# Altium integrated library Lattice FPGA XP2.IntLib: 160 symbols (part 34 of 35)
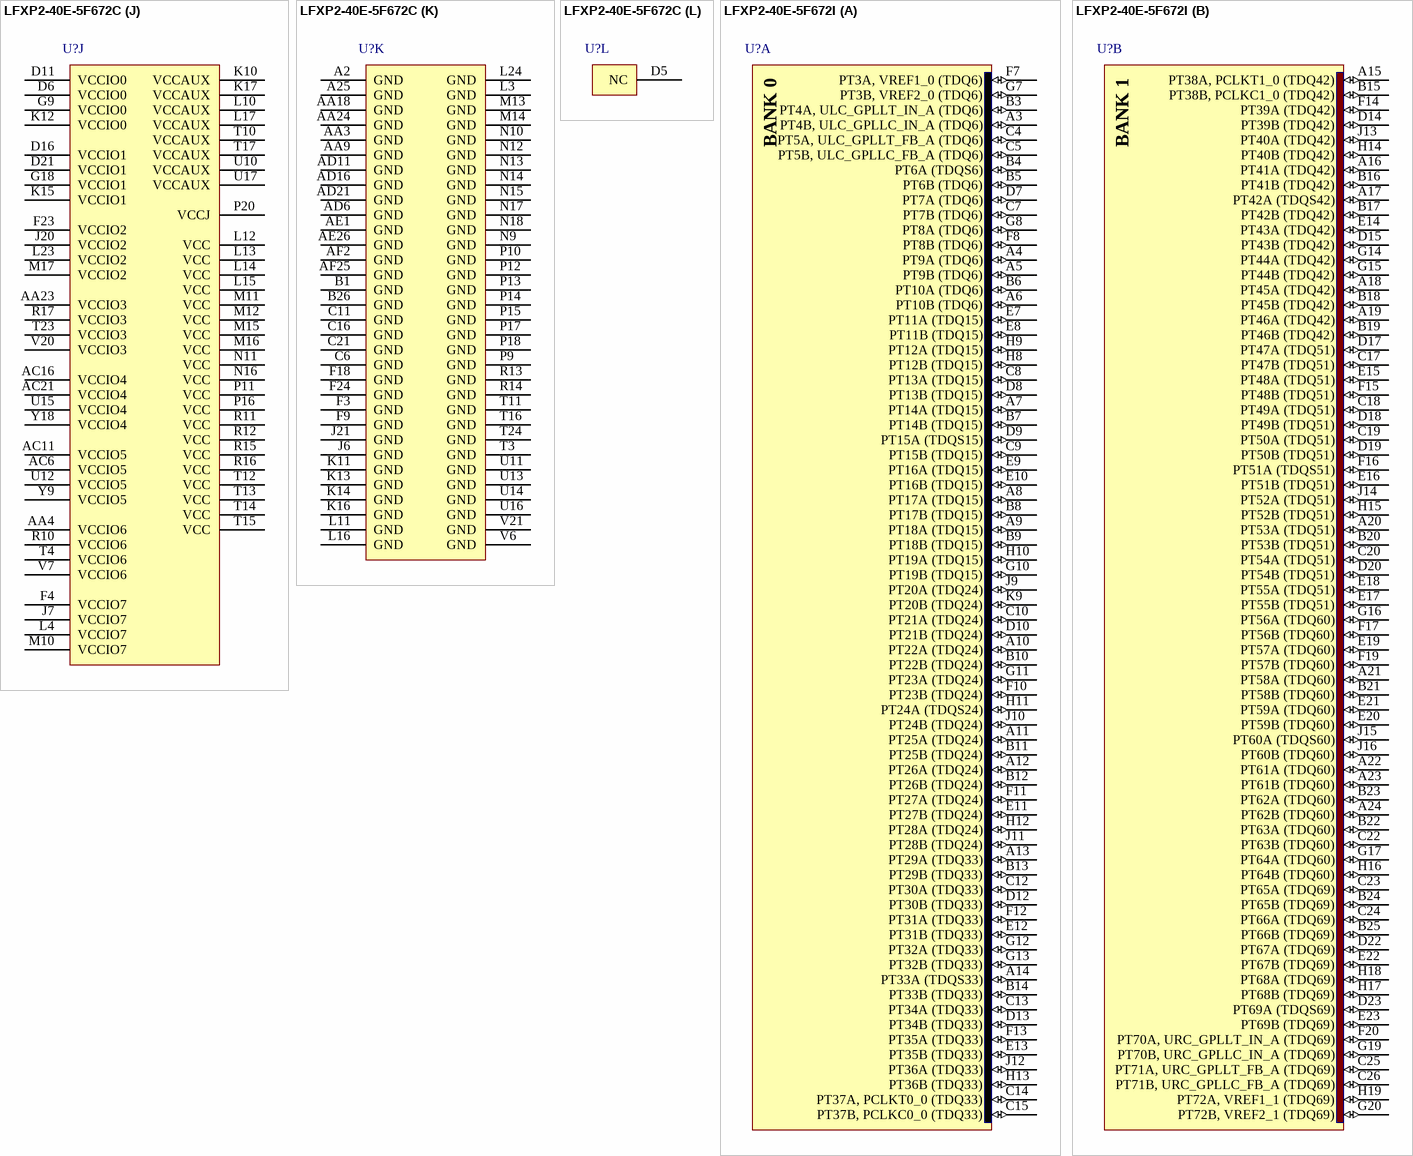
[diagram p193: symbols LFXP2-40E-5F672C to LFXP2-40E-5F672I]

## LFXP2-40E-5F672C
designator U?
XP2, 1.2V FPGA, 540 I/Os, 40K LUTs, 672-Pin fpBGA, Speed Grade 5, Commercial Grade; DatasheetVersion: ver01.8, Jun-2008; PackageVersion: ver02.8, Jul-2011; PackageReference: fpBGA672; PackageDescription: 672-Ball Fine Pitch Ball Grid Array (fpBGA672); ComponentLink1Description: Manufacturer URL; ComponentLink1URL: http://www.latticesemi.com/; ComponentLink2Description: Datasheet; ComponentLink2URL: http://www.latticesemi.com/documents/DS1009.pdf; ComponentLink3Description: Package Specification; ComponentLink3URL: http://www.latticesemi.com/lit/docs/package/pkg.pdf
footprint fpBGA672 (BGA, 672-Leads, Body 27x27mm, Pitch 1mm)
part A pins: A3 PT4B, ULC_GPLLC_IN_A (TDQ6) (io), A4 PT9A (TDQ6) (io), A5 PT9B (TDQ6) (io), A6 PT10B (TDQ6) (io), A7 PT14A (TDQ15) (io), A8 PT17A (TDQ15) (io), A9 PT18A (TDQ15) (io), A10 PT22A (TDQ24) (io), A11 PT25A (TDQ24) (io), A12 PT26A (TDQ24) (io), A13 PT29A (TDQ33) (io), A14 PT33A (TDQS33) (io), B3 PT4A, ULC_GPLLT_IN_A (TDQ6) (io), B4 PT6A (TDQS6) (io), B5 PT6B (TDQ6) (io), B6 PT10A (TDQ6) (io), B7 PT14B (TDQ15) (io), B8 PT17B (TDQ15) (io), B9 PT18B (TDQ15) (io), B10 PT22B (TDQ24) (io), B11 PT25B (TDQ24) (io), B12 PT26B (TDQ24) (io), B13 PT29B (TDQ33) (io), B14 PT33B (TDQ33) (io), C4 PT5A, ULC_GPLLT_FB_A (TDQ6) (io), C5 PT5B, ULC_GPLLC_FB_A (TDQ6) (io), C7 PT7B (TDQ6) (io), C8 PT13A (TDQ15) (io), C9 PT15B (TDQ15) (io), C10 PT21A (TDQ24) (io), C12 PT30A (TDQ33) (io), C13 PT34A (TDQ33) (io), C14 PT37A, PCLKT0_0 (TDQ33) (io), C15 PT37B, PCLKC0_0 (TDQ33) (io), D7 PT7A (TDQ6) (io), D8 PT13B (TDQ15) (io), D9 PT15A (TDQS15) (io), D10 PT21B (TDQ24) (io), D12 PT30B (TDQ33) (io), D13 PT34B (TDQ33) (io), E7 PT11A (TDQ15) (io), E8 PT11B (TDQ15) (io), E9 PT16A (TDQ15) (io), E10 PT16B (TDQ15) (io), E11 PT27B (TDQ24) (io), E12 PT31B (TDQ33) (io), E13 PT35B (TDQ33) (io), F7 PT3A, VREF1_0 (TDQ6) (io), F8 PT8B (TDQ6) (io), F10 PT23B (TDQ24) (io), F11 PT27A (TDQ24) (io), F12 PT31A (TDQ33) (io), F13 PT35A (TDQ33) (io), G7 PT3B, VREF2_0 (TDQ6) (io), G8 PT8A (TDQ6) (io), G10 PT19B (TDQ15) (io), G11 PT23A (TDQ24) (io), G12 PT32A (TDQ33) (io), G13 PT32B (TDQ33) (io), H8 PT12B (TDQ15) (io), H9 PT12A (TDQ15) (io), H10 PT19A (TDQ15) (io), H11 PT24A (TDQS24) (io), H12 PT28A (TDQ24) (io), H13 PT36B (TDQ33) (io), J9 PT20A (TDQ24) (io), J10 PT24B (TDQ24) (io), J11 PT28B (TDQ24) (io), J12 PT36A (TDQ33) (io), K9 PT20B (TDQ24) (io)
part B pins: A15 PT38A, PCLKT1_0 (TDQ42) (io), A16 PT41A (TDQ42) (io), A17 PT42A (TDQS42) (io), A18 PT45A (TDQ42) (io), A19 PT46A (TDQ42) (io), A20 PT53A (TDQ51) (io), A21 PT58A (TDQ60) (io), A22 PT61A (TDQ60) (io), A23 PT61B (TDQ60) (io), A24 PT62B (TDQ60) (io), B15 PT38B, PCLKC1_0 (TDQ42) (io), B16 PT41B (TDQ42) (io), B17 PT42B (TDQ42) (io), B18 PT45B (TDQ42) (io), B19 PT46B (TDQ42) (io), B20 PT53B (TDQ51) (io), B21 PT58B (TDQ60) (io), B22 PT63A (TDQ60) (io), B23 PT62A (TDQ60) (io), B24 PT65B (TDQ69) (io), B25 PT66B (TDQ69) (io), C17 PT47B (TDQ51) (io), C18 PT49A (TDQ51) (io), C19 PT50A (TDQ51) (io), C20 PT54A (TDQ51) (io), C22 PT63B (TDQ60) (io), C23 PT65A (TDQ69) (io), C24 PT66A (TDQ69) (io), C25 PT71A, URC_GPLLT_FB_A (TDQ69) (io), C26 PT71B, URC_GPLLC_FB_A (TDQ69) (io), D14 PT39B (TDQ42) (io), D15 PT43B (TDQ42) (io), D17 PT47A (TDQ51) (io), D18 PT49B (TDQ51) (io), D19 PT50B (TDQ51) (io), D20 PT54B (TDQ51) (io), D22 PT67A (TDQ69) (io), D23 PT69A (TDQS69) (io), E14 PT43A (TDQ42) (io), E15 PT48A (TDQ51) (io), E16 PT51B (TDQ51) (io), E17 PT55B (TDQ51) (io), E18 PT55A (TDQ51) (io), E19 PT57A (TDQ60) (io), E20 PT59B (TDQ60) (io), E21 PT59A (TDQ60) (io), E22 PT67B (TDQ69) (io), E23 PT69B (TDQ69) (io), F14 PT39A (TDQ42) (io), F15 PT48B (TDQ51) (io), F16 PT51A (TDQS51) (io), F17 PT56B (TDQ60) (io), F19 PT57B (TDQ60) (io), F20 PT70A, URC_GPLLT_IN_A (TDQ69) (io), G14 PT44A (TDQ42) (io), G15 PT44B (TDQ42) (io), G16 PT56A (TDQ60) (io), G17 PT64A (TDQ60) (io), G19 PT70B, URC_GPLLC_IN_A (TDQ69) (io), G20 PT72B, VREF2_1 (TDQ69) (io), H14 PT40B (TDQ42) (io), H15 PT52B (TDQ51) (io), H16 PT64B (TDQ60) (io), H17 PT68B (TDQ69) (io), H18 PT68A (TDQ69) (io), H19 PT72A, VREF1_1 (TDQ69) (io), J13 PT40A (TDQ42) (io), J14 PT52A (TDQ51) (io), J15 PT60A (TDQS60) (io), J16 PT60B (TDQ60) (io)
part C pins: D24 PR4A (RDQ8) (io), D25 PR7A (RDQ8) (io), D26 PR7B (RDQ8) (io), E24 PR4B (RDQ8) (io), E25 PR8A (RDQS8) (io), E26 PR8B (RDQ8) (io), F21 PR6B (RDQ8) (io), F22 PR5B, VREF2_2 (RDQ8) (io), F25 PR12A (RDQ16) (io), F26 PR12B (RDQ16) (io), G21 PR5A, VREF1_2 (RDQ8) (io), G22 PR6A (RDQ8) (io), G23 PR11B (RDQ8) (io), G24 PR11A (RDQ8) (io), G25 PR15B (RDQ16) (io), G26 PR15A (RDQ16) (io), H20 PR9A (RDQ8) (io), H21 PR9B (RDQ8) (io), H22 PR13A (RDQ16) (io), H23 PR14B (RDQ16) (io), H24 PR14A (RDQ16) (io), H25 PR19B (RDQ16) (io), H26 PR19A (RDQ16) (io), J17 PR22A (RDQ25) (io), J18 PR10B (RDQ8) (io), J19 PR10A (RDQ8) (io), J22 PR13B (RDQ16) (io), J23 PR16B (RDQ16) (io), J24 PR16A (RDQS16) (io), J25 PR24B (RDQ25) (io), J26 PR24A (RDQ25) (io), K18 PR22B (RDQ25) (io), K19 PR17B (RDQ16) (io), K20 PR17A (RDQ16) (io), K21 PR18B (RDQ16) (io), K22 PR18A (RDQ16) (io), K23 PR21B (RDQ25) (io), K24 PR21A (RDQ25) (io), K25 PR25B (RDQ25) (io), K26 PR25A (RDQS25) (io), L18 PR30A (RDQ33) (io), L19 PR26B (RDQ25) (io), L20 PR26A (RDQ25) (io), L21 PR23B (RDQ25) (io), L22 PR23A (RDQ25) (io), L25 PR28B (RDQ25) (io), L26 PR28A (RDQ25) (io), M18 PR31B (RDQ33) (io), M19 PR30B (RDQ33) (io), M20 PR31A (RDQ33) (io), M21 PR27B (RDQ25) (io), M22 PR27A (RDQ25) (io), M23 PR29B (RDQ33) (io), M24 PR29A (RDQ33) (io), M25 PR32B (RDQ33) (io), M26 PR32A (RDQ33) (io), N19 PR35B (RDQ33) (io), N20 PR35A (RDQ33) (io), N21 PR34A (RDQ33) (io), N22 PR34B (RDQ33) (io), N23 PR33B (RDQ33) (io), N24 PR33A (RDQS33) (io), N25 PR36B, PCLKC2_0 (RDQ33) (io), N26 PR36A, PCLKT2_0 (RDQ33) (io)
part D pins: AA21 PR67B (RDQ67) (io), AA22 PR69A (RDQ67) (io), AA25 PR55B (RDQ59) (io), AA26 PR55A (RDQ59) (io), AB21 PR69B (RDQ67) (io), AB22 PR71B (io), AB23 PR62B (RDQ59) (io), AB24 PR62A (RDQ59) (io), AB25 PR58B (RDQ59) (io), AB26 PR58A (RDQ59) (io), AC22 PR71A (io), AC23 PR63B (RDQ67) (io), AC24 PR63A (RDQ67) (io), AC25 PR59B (RDQ59) (io), AC26 PR59A (RDQS59) (io), AD23 PR70B, VREF2_3 (RDQ67) (io), AD24 PR70A, VREF1_3 (RDQ67) (io), AD25 PR66B (RDQ67) (io), AD26 PR66A (RDQ67) (io), P19 PR39A (RDQ42) (io), P25 PR38B, PCLKC3_0 (RDQ42) (io), P26 PR38A, PCLKT3_0 (RDQ42) (io), R18 PR39B (RDQ42) (io), R19 PR43A (RDQ42) (io), R20 PR43B (RDQ42) (io), R21 PR40B (RDQ42) (io), R22 PR40A (RDQ42) (io), R23 PR42B (RDQ42) (io), R24 PR42A (RDQS42) (io), R25 PR41B (RDQ42) (io), R26 PR41A (RDQ42) (io), T18 PR47A (RDQ50) (io), T19 PR47B (RDQ50) (io), T20 PR51B (RDQ50) (io), T21 PR51A (RDQ50) (io), T22 PR44B (RDQ42) (io), T25 PR45B (RDQ42) (io), T26 PR45A (RDQ42) (io), U18 PR56A (RDQ59) (io), U19 PR56B (RDQ59) (io), U20 PR60B (RDQ59) (io), U21 PR60A (RDQ59) (io), U22 PR44A (RDQ42) (io), U23 PR48B (RDQ50) (io), U24 PR48A (RDQ50) (io), U25 PR46B (RDQ50) (io), U26 PR46A (RDQ50) (io), V19 PR68A (RDQ67) (io), V22 PR64A (RDQ67) (io), V23 PR52B (RDQ50) (io), V24 PR52A (RDQ50) (io), V25 PR49B (RDQ50) (io), V26 PR49A (RDQ50) (io), W20 PR68B (RDQ67) (io), W21 PR64B (RDQ67) (io), W22 PR65A (RDQ67) (io), W23 PR57B (RDQ59) (io), W24 PR57A (RDQ59) (io), W25 PR50B (RDQ50) (io), W26 PR50A (RDQS50) (io), Y21 PR65B (RDQ67) (io), Y22 PR67A (RDQS67) (io), Y23 PR61B (RDQ59) (io), Y24 PR61A (RDQ59) (io), Y25 PR53B (RDQ50) (io), Y26 PR53A (RDQ50) (io)
part E pins: AA14 PB39A (BDQ42) (io), AA15 PB44B (BDQ42) (io), AA16 PB47A (BDQ51) (io), AA17 PB59A (BDQ60) (io), AA19 PB68A (BDQ69) (io), AA20 PB71B, LRC_GPLLC_FB_A (BDQ69) (io), AB14 PB39B (BDQ42) (io), AB15 PB44A (BDQ42) (io), AB16 PB47B (BDQ51) (io), AB17 PB59B (BDQ60) (io), AB18 PB63A (BDQ60) (io), AB19 PB63B (BDQ60) (io), AB20 PB71A, LRC_GPLLT_FB_A (BDQ69) (io), AC15 PB43A (BDQ42) (io), AC17 PB51A (BDQS51) (io), AC18 PB55A (BDQ51) (io), AC19 PB67A (BDQ69) (io), AC20 PB70B, LRC_GPLLC_IN_A (BDQ69) (io), AD15 PB43B (BDQ42) (io), AD17 PB51B (BDQ51) (io), AD18 PB55B (BDQ51) (io), AD19 PB67B (BDQ69) (io), AD20 PB70A, LRC_GPLLT_IN_A (BDQ69) (io), AD22 PB69B (BDQ69) (io), AE10 PB38A, PCLKT4_0 (BDQ42) (io), AE11 PB41A (BDQ42) (io), AE12 PB42A (BDQS42) (io), AE13 PB45A (BDQ42) (io), AE14 PB46A (BDQ42) (io), AE15 PB49A (BDQ51) (io), AE16 PB50A (BDQ51) (io), AE17 PB53A (BDQ51) (io), AE18 PB54A (BDQ51) (io), AE19 PB57A (BDQ60) (io), AE20 PB58A (BDQ60) (io), AE21 PB61B (BDQ60) (io), AE22 PB62B (BDQ60) (io), AE23 PB69A (BDQS69) (io), AE24 PB66B (BDQ69) (io), AE25 PB66A (BDQ69) (io), AF10 PB38B, PCLKC4_0 (BDQ42) (io), AF11 PB41B (BDQ42) (io), AF12 PB42B (BDQ42) (io), AF13 PB45B (BDQ42) (io), AF14 PB46B (BDQ42) (io), AF15 PB49B (BDQ51) (io), AF16 PB50B (BDQ51) (io), AF17 PB53B (BDQ51) (io), AF18 PB54B (BDQ51) (io), AF19 PB57B (BDQ60) (io), AF20 PB58B (BDQ60) (io), AF21 PB61A (BDQ60) (io), AF22 PB62A (BDQ60) (io), AF23 PB65A (BDQ69) (io), AF24 PB65B (BDQ69) (io), V15 PB40A (BDQ42) (io), V16 PB52A (BDQ51) (io), V17 PB60A (BDQS60) (io), V18 PB64A (BDQ60) (io), W15 PB40B (BDQ42) (io), W16 PB52B (BDQ51) (io), W17 PB60B (BDQ60) (io), W18 PB64B (BDQ60) (io), W19 PB72A, VREF1_4 (BDQ69) (io), Y14 PB48A (BDQ51) (io), Y15 PB48B (BDQ51) (io), Y16 PB56A (BDQ60) (io), Y17 PB56B (BDQ60) (io), Y19 PB68B (BDQ69) (io), Y20 PB72B, VREF2_4 (BDQ69) (io)
part F pins: AA7 PB5A, LLC_GPLLT_FB_A (BDQ6) (io), AA8 PB3A, VREF1_5 (BDQ6) (io), AA10 PB15B (BDQ15) (io), AA11 PB20B (BDQ24) (io), AA12 PB23A (BDQ24) (io), AA13 PB36B (BDQ33) (io), AB3 PB4A, LLC_GPLLT_IN_A (BDQ6) (io), AB4 PB4B, LLC_GPLLC_IN_A (BDQ6) (io), AB5 PB9A (BDQ6) (io), AB6 PB7B (BDQ6) (io), AB7 PB7A (BDQ6) (io), AB8 PB11A (BDQ15) (io), AB9 PB18A (BDQ15) (io), AB10 PB18B (BDQ15) (io), AB11 PB19A (BDQ15) (io), AB12 PB23B (BDQ24) (io), AB13 PB36A (BDQ33) (io), AC3 PB6A (BDQS6) (io), AC4 PB6B (BDQ6) (io), AC5 PB9B (BDQ6) (io), AC7 PB11B (BDQ15) (io), AC8 PB22A (BDQ24) (io), AC9 PB22B (BDQ24) (io), AC10 PB19B (BDQ15) (io), AC12 PB27A (BDQ24) (io), AC13 PB31A (BDQ33) (io), AC14 PB35A (BDQ33) (io), AD1 PB10A (BDQ6) (io), AD2 PB10B (BDQ6) (io), AD3 PB14A (BDQ15) (io), AD4 PB13A (BDQ15) (io), AD5 PB13B (BDQ15) (io), AD7 PB29B (BDQ33) (io), AD8 PB29A (BDQ33) (io), AD9 PB33B (BDQ33) (io), AD10 PB33A (BDQS33) (io), AD12 PB27B (BDQ24) (io), AD13 PB31B (BDQ33) (io), AD14 PB35B (BDQ33) (io), AE2 PB14B (BDQ15) (io), AE3 PB17A (BDQ15) (io), AE4 PB21A (BDQ24) (io), AE5 PB21B (BDQ24) (io), AE6 PB26A (BDQ24) (io), AE7 PB30A (BDQ33) (io), AE8 PB34A (BDQ33) (io), AE9 PB37A, PCLKT5_0 (BDQ33) (io), AF3 PB17B (BDQ15) (io), AF4 PB25A (BDQ24) (io), AF5 PB25B (BDQ24) (io), AF6 PB26B (BDQ24) (io), AF7 PB30B (BDQ33) (io), AF8 PB34B (BDQ33) (io), AF9 PB37B, PCLKC5_0 (BDQ33) (io), V10 PB8A (BDQ6) (io), V11 PB12A (BDQ15) (io), V12 PB16A (BDQ15) (io), V13 PB24A (BDQS24) (io), V14 PB32A (BDQ33) (io), W9 PB5B, LLC_GPLLC_FB_A (BDQ6) (io), W10 PB8B (BDQ6) (io), W11 PB12B (BDQ15) (io), W12 PB16B (BDQ15) (io), W13 PB24B (BDQ24) (io), W14 PB32B (BDQ33) (io), Y8 PB3B, VREF2_5 (BDQ6) (io), Y10 PB15A (BDQS15) (io), Y11 PB20A (BDQ24) (io), Y12 PB28A (BDQ24) (io), Y13 PB28B (BDQ24) (io)
part G pins: AA1 PL67A (LDQS67) (io), AA2 PL67B (LDQ67) (io), AA5 PL64A (LDQ67) (io), AA6 PL69A (LDQ67) (io), AB1 PL70A, VREF1_6 (LDQ67) (io), AB2 PL70B, VREF2_6 (LDQ67) (io), AC1 PL68A (LDQ67) (io), AC2 PL68B (LDQ67) (io), N1 PL38B, PCLKC6_0 (LDQ42) (io), N2 PL38A, PCLKT6_0 (LDQ42) (io), N3 PL41A (LDQ42) (io), P1 PL42B (LDQ42) (io), P2 PL42A (LDQS42) (io), P3 PL41B (LDQ42) (io), P4 PL44A (LDQ42) (io), P5 PL40A (LDQ42) (io), P6 PL40B (LDQ42) (io), P7 PL39B (LDQ42) (io), P8 PL39A (LDQ42) (io), R1 PL46B (LDQ50) (io), R2 PL46A (LDQ50) (io), R3 PL45B (LDQ42) (io), R4 PL45A (LDQ42) (io), R5 PL44B (LDQ42) (io), R6 PL43A (LDQ42) (io), R7 PL43B (LDQ42) (io), R8 PL47B (LDQ50) (io), R9 PL47A (LDQ50) (io), T1 PL49B (LDQ50) (io), T2 PL49A (LDQ50) (io), T5 PL48A (LDQ50) (io), T6 PL48B (LDQ50) (io), T7 PL60B (LDQ59) (io), T8 PL51B (LDQ50) (io), T9 PL51A (LDQ50) (io), U1 PL53B (LDQ50) (io), U2 PL53A (LDQ50) (io), U3 PL50B (LDQ50) (io), U4 PL50A (LDQS50) (io), U5 PL52A (LDQ50) (io), U6 PL52B (LDQ50) (io), U7 PL60A (LDQ59) (io), U8 PL56B (LDQ59) (io), U9 PL56A (LDQ59) (io), V1 PL58B (LDQ59) (io), V2 PL58A (LDQ59) (io), V3 PL55B (LDQ59) (io), V4 PL55A (LDQ59) (io), V5 PL57B (LDQ59) (io), V8 PL61A (LDQ59) (io), V9 PL61B (LDQ59) (io), W1 PL62B (LDQ59) (io), W2 PL62A (LDQ59) (io), W3 PL59B (LDQ59) (io), W4 PL59A (LDQS59) (io), W5 PL57A (LDQ59) (io), W6 PL65A (LDQ67) (io), W7 PL65B (LDQ67) (io), W8 PL71A (io), Y1 PL66B (LDQ67) (io), Y2 PL66A (LDQ67) (io), Y3 PL63B (LDQ67) (io), Y4 PL63A (LDQ67) (io), Y5 PL64B (LDQ67) (io), Y6 PL69B (LDQ67) (io), Y7 PL71B (io)
part H pins: B2 PL4B (LDQ8) (io), C1 PL8A (LDQS8) (io), C2 PL7A (LDQ8) (io), C3 PL4A (LDQ8) (io), D1 PL15A (LDQ16) (io), D2 PL8B (LDQ8) (io), D3 PL7B (LDQ8) (io), D4 PL10A (LDQ8) (io), E1 PL15B (LDQ16) (io), E2 PL12B (LDQ16) (io), E3 PL12A (LDQ16) (io), E4 PL10B (LDQ8) (io), E5 PL11A (LDQ8) (io), E6 PL5A, VREF1_7 (LDQ8) (io), F1 PL16B (LDQ16) (io), F2 PL16A (LDQS16) (io), F5 PL11B (LDQ8) (io), F6 PL5B, VREF2_7 (LDQ8) (io), G1 PL25B (LDQ25) (io), G2 PL25A (LDQS25) (io), G3 PL19B (LDQ16) (io), G4 PL19A (LDQ16) (io), G5 PL6A (LDQ8) (io), G6 PL6B (LDQ8) (io), H1 PL29B (LDQ33) (io), H2 PL29A (LDQ33) (io), H3 PL24A (LDQ25) (io), H4 PL14A (LDQ16) (io), H5 PL13B (LDQ16) (io), H6 PL13A (LDQ16) (io), H7 PL9A (LDQ8) (io), J1 PL32B, CSSPIN (LDQ33) (io), J2 PL32A, CSSPISN (LDQ33) (io), J3 PL24B (LDQ25) (io), J4 PL21B (LDQ25) (io), J5 PL14B (LDQ16) (io), J8 PL9B (LDQ8) (io), K1 PL33B (LDQ33) (io), K2 PL33A (LDQS33) (io), K3 PL28B (LDQ25) (io), K4 PL28A (LDQ25) (io), K5 PL21A (LDQ25) (io), K6 PL17B (LDQ16) (io), K7 PL17A (LDQ16) (io), K8 PL18A (LDQ16) (io), L1 PL35B, INITN (LDQ33) (io), L2 PL35A, SISPI (LDQ33) (io), L5 PL23A (LDQ25) (io), L6 PL23B (LDQ25) (io), L7 PL22A (LDQ25) (io), L8 PL22B (LDQ25) (io), L9 PL18B (LDQ16) (io), M1 PL36B, PCLKC7_0 (LDQ33) (io), M2 PL36A, PCLKT7_0 (LDQ33) (io), M4 PL31A, CFG1 (LDQ33) (io), M5 PL31B (LDQ33) (io), M6 PL27A (LDQ25) (io), M7 PL27B (LDQ25) (io), M8 PL26A (LDQ25) (io), M9 PL26B (LDQ25) (io), N5 PL34B, SOSPI (LDQ33) (io), N6 PL34A, CCLK (LDQ33) (io), N7 PL30B, DONE (LDQ33) (io), N8 PL30A, PROGRAMN (LDQ33) (io)
part I pins: M3 CFG0, N4 TOE, P21 TCK (in), P22 TDO (out), P23 TDI (in), P24 TMS (in)
part J pins: AA4 VCCIO6 (power), AA23 VCCIO3 (power), AC6 VCCIO5 (power), AC11 VCCIO5 (power), AC16 VCCIO4 (power), AC21 VCCIO4 (power), D6 VCCIO0 (power), D11 VCCIO0 (power), D16 VCCIO1 (power), D21 VCCIO1 (power), F4 VCCIO7 (power), F23 VCCIO2 (power), G9 VCCIO0 (power), G18 VCCIO1 (power), J7 VCCIO7 (power), J20 VCCIO2 (power), K10 VCCAUX (power), K12 VCCIO0 (power), K15 VCCIO1 (power), K17 VCCAUX (power), L4 VCCIO7 (power), L10 VCCAUX (power), L12 VCC (power), L13 VCC (power), L14 VCC (power), L15 VCC (power), L17 VCCAUX (power), L23 VCCIO2 (power), M10 VCCIO7 (power), M11 VCC (power), M12 VCC (power), M15 VCC (power), M16 VCC (power), M17 VCCIO2 (power), N11 VCC (power), N16 VCC (power), P11 VCC (power), P16 VCC (power), P20 VCCJ (power), R10 VCCIO6 (power), R11 VCC (power), R12 VCC (power), R15 VCC (power), R16 VCC (power), R17 VCCIO3 (power), T4 VCCIO6 (power), T10 VCCAUX (power), T12 VCC (power), T13 VCC (power), T14 VCC (power), T15 VCC (power), T17 VCCAUX (power), T23 VCCIO3 (power), U10 VCCAUX (power), U12 VCCIO5 (power), U15 VCCIO4 (power), U17 VCCAUX (power), V7 VCCIO6 (power), V20 VCCIO3 (power), Y9 VCCIO5 (power), Y18 VCCIO4 (power)
part K pins: A2 GND (power), A25 GND (power), AA3 GND (power), AA9 GND (power), AA18 GND (power), AA24 GND (power), AD6 GND (power), AD11 GND (power), AD16 GND (power), AD21 GND (power), AE1 GND (power), AE26 GND (power), AF2 GND (power), AF25 GND (power), B1 GND (power), B26 GND (power), C6 GND (power), C11 GND (power), C16 GND (power), C21 GND (power), F3 GND (power), F9 GND (power), F18 GND (power), F24 GND (power), J6 GND (power), J21 GND (power), K11 GND (power), K13 GND (power), K14 GND (power), K16 GND (power), L3 GND (power), L11 GND (power), L16 GND (power), L24 GND (power), M13 GND (power), M14 GND (power), N9 GND (power), N10 GND (power), N12 GND (power), N13 GND (power), N14 GND (power), N15 GND (power), N17 GND (power), N18 GND (power), P9 GND (power), P10 GND (power), P12 GND (power), P13 GND (power), P14 GND (power), P15 GND (power), P17 GND (power), P18 GND (power), R13 GND (power), R14 GND (power), T3 GND (power), T11 GND (power), T16 GND (power), T24 GND (power), U11 GND (power), U13 GND (power), U14 GND (power), U16 GND (power), V6 GND (power), V21 GND (power)
part L pins: D5 NC
part A text: BANK 0
part B text: BANK 1
part C text: BANK 2
part D text: BANK 3
part E text: BANK 4
part F text: BANK 5
part G text: BANK 6
part H text: BANK 7

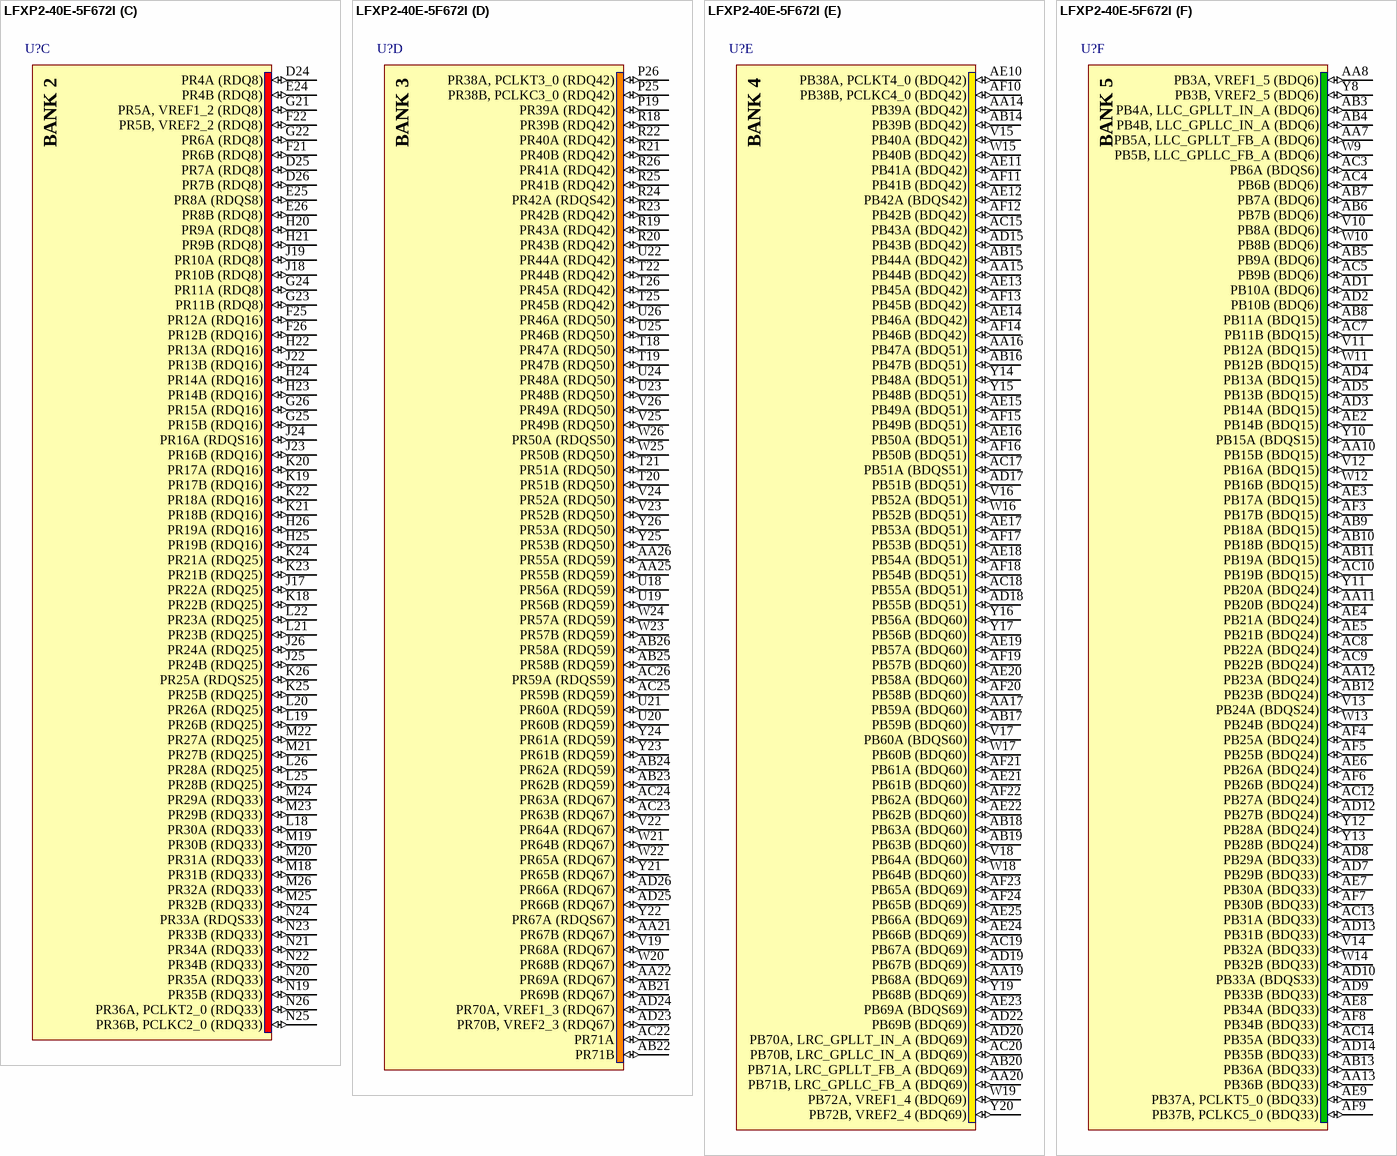
[diagram p143: symbol LFXP2-40E-5F672I]

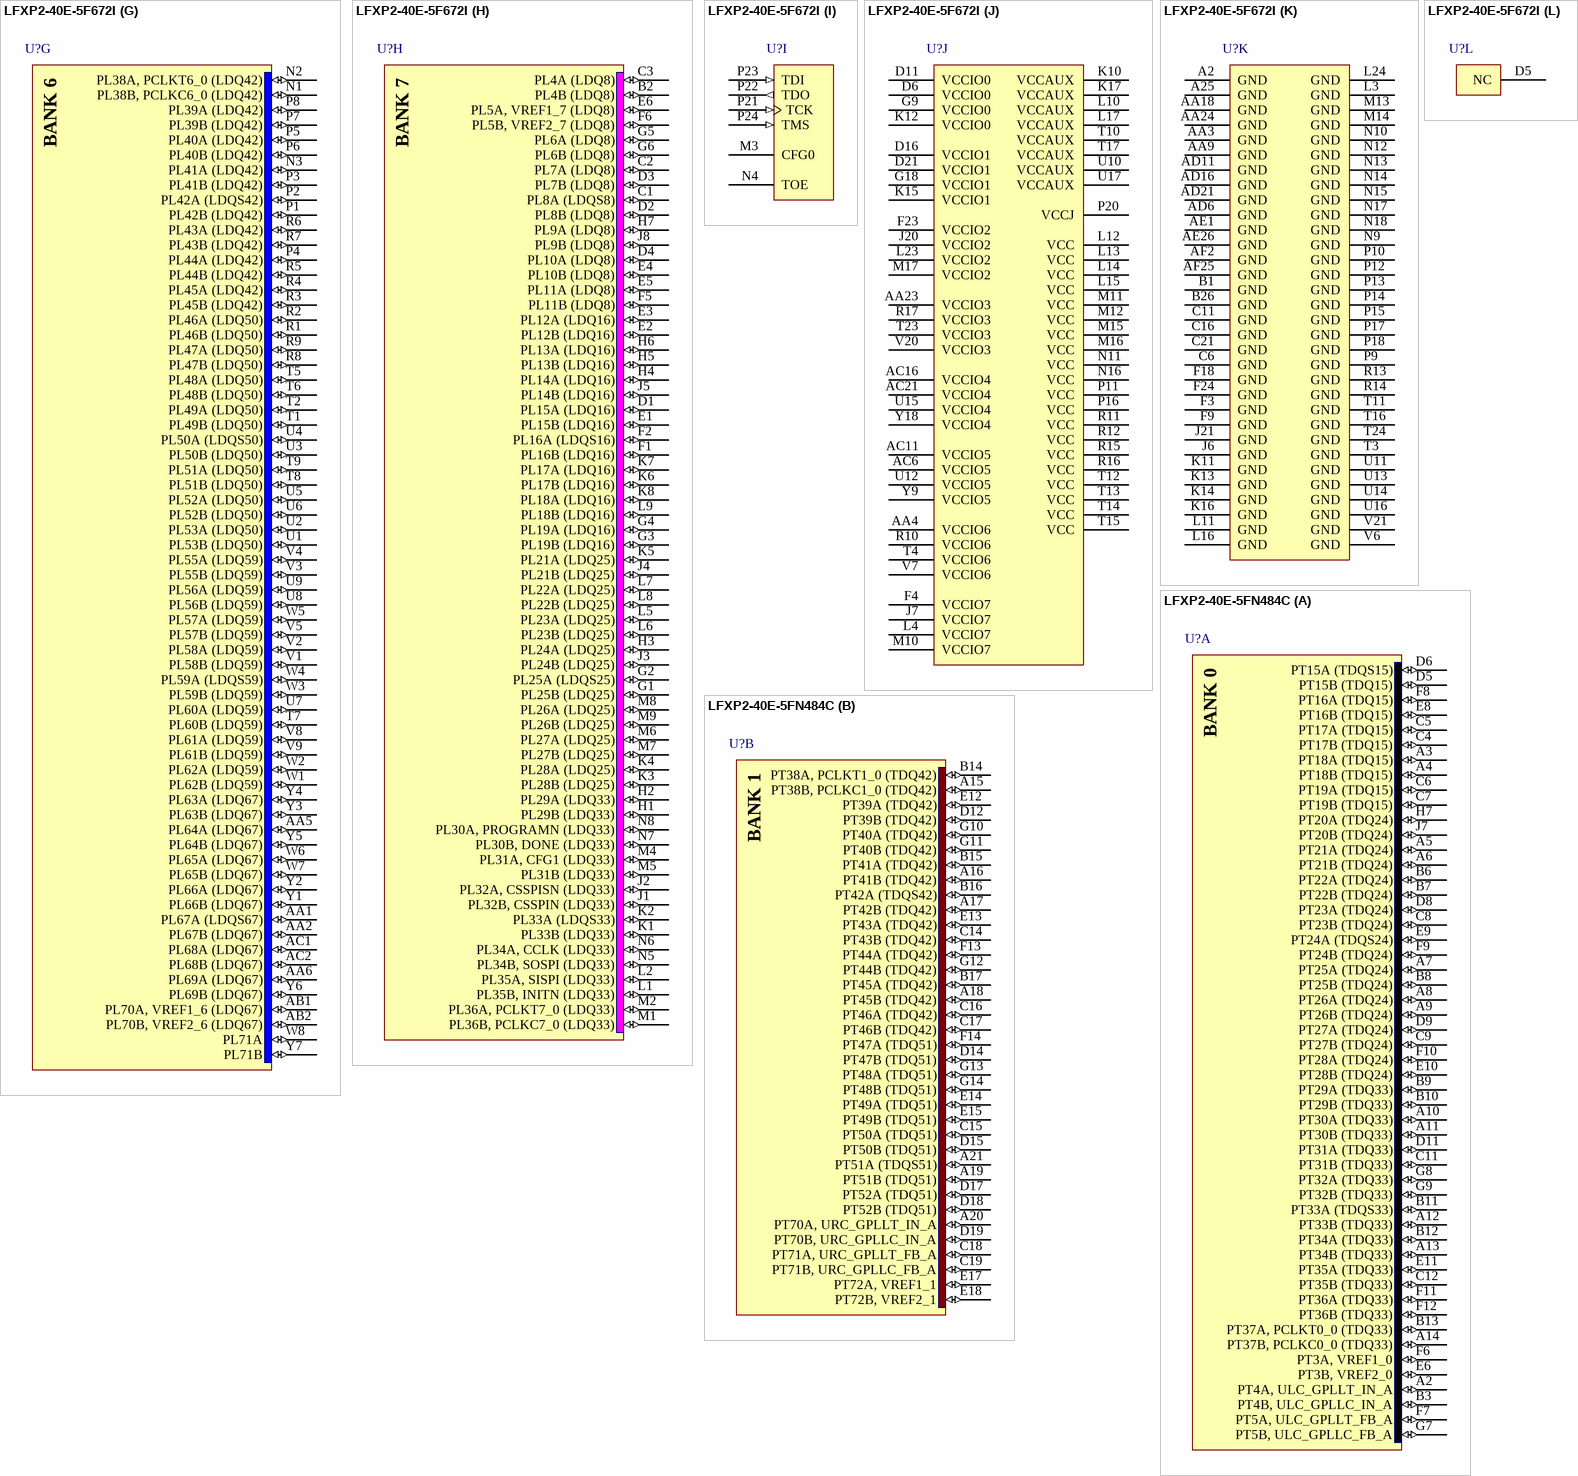
[diagram p144: symbols LFXP2-40E-5F672I to LFXP2-40E-5FN484C]

## LFXP2-40E-5F672I
designator U?
XP2, 1.2V FPGA, 540 I/Os, 40K LUTs, 672-Pin fpBGA, Speed Grade 5, Industrial Grade; DatasheetVersion: ver01.8, Jun-2008; PackageVersion: ver02.8, Jul-2011; PackageReference: fpBGA672; PackageDescription: 672-Ball Fine Pitch Ball Grid Array (fpBGA672); ComponentLink1Description: Manufacturer URL; ComponentLink1URL: http://www.latticesemi.com/; ComponentLink2Description: Datasheet; ComponentLink2URL: http://www.latticesemi.com/documents/DS1009.pdf; ComponentLink3Description: Package Specification; ComponentLink3URL: http://www.latticesemi.com/lit/docs/package/pkg.pdf
footprint fpBGA672 (BGA, 672-Leads, Body 27x27mm, Pitch 1mm)
part A pins: A3 PT4B, ULC_GPLLC_IN_A (TDQ6) (io), A4 PT9A (TDQ6) (io), A5 PT9B (TDQ6) (io), A6 PT10B (TDQ6) (io), A7 PT14A (TDQ15) (io), A8 PT17A (TDQ15) (io), A9 PT18A (TDQ15) (io), A10 PT22A (TDQ24) (io), A11 PT25A (TDQ24) (io), A12 PT26A (TDQ24) (io), A13 PT29A (TDQ33) (io), A14 PT33A (TDQS33) (io), B3 PT4A, ULC_GPLLT_IN_A (TDQ6) (io), B4 PT6A (TDQS6) (io), B5 PT6B (TDQ6) (io), B6 PT10A (TDQ6) (io), B7 PT14B (TDQ15) (io), B8 PT17B (TDQ15) (io), B9 PT18B (TDQ15) (io), B10 PT22B (TDQ24) (io), B11 PT25B (TDQ24) (io), B12 PT26B (TDQ24) (io), B13 PT29B (TDQ33) (io), B14 PT33B (TDQ33) (io), C4 PT5A, ULC_GPLLT_FB_A (TDQ6) (io), C5 PT5B, ULC_GPLLC_FB_A (TDQ6) (io), C7 PT7B (TDQ6) (io), C8 PT13A (TDQ15) (io), C9 PT15B (TDQ15) (io), C10 PT21A (TDQ24) (io), C12 PT30A (TDQ33) (io), C13 PT34A (TDQ33) (io), C14 PT37A, PCLKT0_0 (TDQ33) (io), C15 PT37B, PCLKC0_0 (TDQ33) (io), D7 PT7A (TDQ6) (io), D8 PT13B (TDQ15) (io), D9 PT15A (TDQS15) (io), D10 PT21B (TDQ24) (io), D12 PT30B (TDQ33) (io), D13 PT34B (TDQ33) (io), E7 PT11A (TDQ15) (io), E8 PT11B (TDQ15) (io), E9 PT16A (TDQ15) (io), E10 PT16B (TDQ15) (io), E11 PT27B (TDQ24) (io), E12 PT31B (TDQ33) (io), E13 PT35B (TDQ33) (io), F7 PT3A, VREF1_0 (TDQ6) (io), F8 PT8B (TDQ6) (io), F10 PT23B (TDQ24) (io), F11 PT27A (TDQ24) (io), F12 PT31A (TDQ33) (io), F13 PT35A (TDQ33) (io), G7 PT3B, VREF2_0 (TDQ6) (io), G8 PT8A (TDQ6) (io), G10 PT19B (TDQ15) (io), G11 PT23A (TDQ24) (io), G12 PT32A (TDQ33) (io), G13 PT32B (TDQ33) (io), H8 PT12B (TDQ15) (io), H9 PT12A (TDQ15) (io), H10 PT19A (TDQ15) (io), H11 PT24A (TDQS24) (io), H12 PT28A (TDQ24) (io), H13 PT36B (TDQ33) (io), J9 PT20A (TDQ24) (io), J10 PT24B (TDQ24) (io), J11 PT28B (TDQ24) (io), J12 PT36A (TDQ33) (io), K9 PT20B (TDQ24) (io)
part B pins: A15 PT38A, PCLKT1_0 (TDQ42) (io), A16 PT41A (TDQ42) (io), A17 PT42A (TDQS42) (io), A18 PT45A (TDQ42) (io), A19 PT46A (TDQ42) (io), A20 PT53A (TDQ51) (io), A21 PT58A (TDQ60) (io), A22 PT61A (TDQ60) (io), A23 PT61B (TDQ60) (io), A24 PT62B (TDQ60) (io), B15 PT38B, PCLKC1_0 (TDQ42) (io), B16 PT41B (TDQ42) (io), B17 PT42B (TDQ42) (io), B18 PT45B (TDQ42) (io), B19 PT46B (TDQ42) (io), B20 PT53B (TDQ51) (io), B21 PT58B (TDQ60) (io), B22 PT63A (TDQ60) (io), B23 PT62A (TDQ60) (io), B24 PT65B (TDQ69) (io), B25 PT66B (TDQ69) (io), C17 PT47B (TDQ51) (io), C18 PT49A (TDQ51) (io), C19 PT50A (TDQ51) (io), C20 PT54A (TDQ51) (io), C22 PT63B (TDQ60) (io), C23 PT65A (TDQ69) (io), C24 PT66A (TDQ69) (io), C25 PT71A, URC_GPLLT_FB_A (TDQ69) (io), C26 PT71B, URC_GPLLC_FB_A (TDQ69) (io), D14 PT39B (TDQ42) (io), D15 PT43B (TDQ42) (io), D17 PT47A (TDQ51) (io), D18 PT49B (TDQ51) (io), D19 PT50B (TDQ51) (io), D20 PT54B (TDQ51) (io), D22 PT67A (TDQ69) (io), D23 PT69A (TDQS69) (io), E14 PT43A (TDQ42) (io), E15 PT48A (TDQ51) (io), E16 PT51B (TDQ51) (io), E17 PT55B (TDQ51) (io), E18 PT55A (TDQ51) (io), E19 PT57A (TDQ60) (io), E20 PT59B (TDQ60) (io), E21 PT59A (TDQ60) (io), E22 PT67B (TDQ69) (io), E23 PT69B (TDQ69) (io), F14 PT39A (TDQ42) (io), F15 PT48B (TDQ51) (io), F16 PT51A (TDQS51) (io), F17 PT56B (TDQ60) (io), F19 PT57B (TDQ60) (io), F20 PT70A, URC_GPLLT_IN_A (TDQ69) (io), G14 PT44A (TDQ42) (io), G15 PT44B (TDQ42) (io), G16 PT56A (TDQ60) (io), G17 PT64A (TDQ60) (io), G19 PT70B, URC_GPLLC_IN_A (TDQ69) (io), G20 PT72B, VREF2_1 (TDQ69) (io), H14 PT40B (TDQ42) (io), H15 PT52B (TDQ51) (io), H16 PT64B (TDQ60) (io), H17 PT68B (TDQ69) (io), H18 PT68A (TDQ69) (io), H19 PT72A, VREF1_1 (TDQ69) (io), J13 PT40A (TDQ42) (io), J14 PT52A (TDQ51) (io), J15 PT60A (TDQS60) (io), J16 PT60B (TDQ60) (io)
part C pins: D24 PR4A (RDQ8) (io), D25 PR7A (RDQ8) (io), D26 PR7B (RDQ8) (io), E24 PR4B (RDQ8) (io), E25 PR8A (RDQS8) (io), E26 PR8B (RDQ8) (io), F21 PR6B (RDQ8) (io), F22 PR5B, VREF2_2 (RDQ8) (io), F25 PR12A (RDQ16) (io), F26 PR12B (RDQ16) (io), G21 PR5A, VREF1_2 (RDQ8) (io), G22 PR6A (RDQ8) (io), G23 PR11B (RDQ8) (io), G24 PR11A (RDQ8) (io), G25 PR15B (RDQ16) (io), G26 PR15A (RDQ16) (io), H20 PR9A (RDQ8) (io), H21 PR9B (RDQ8) (io), H22 PR13A (RDQ16) (io), H23 PR14B (RDQ16) (io), H24 PR14A (RDQ16) (io), H25 PR19B (RDQ16) (io), H26 PR19A (RDQ16) (io), J17 PR22A (RDQ25) (io), J18 PR10B (RDQ8) (io), J19 PR10A (RDQ8) (io), J22 PR13B (RDQ16) (io), J23 PR16B (RDQ16) (io), J24 PR16A (RDQS16) (io), J25 PR24B (RDQ25) (io), J26 PR24A (RDQ25) (io), K18 PR22B (RDQ25) (io), K19 PR17B (RDQ16) (io), K20 PR17A (RDQ16) (io), K21 PR18B (RDQ16) (io), K22 PR18A (RDQ16) (io), K23 PR21B (RDQ25) (io), K24 PR21A (RDQ25) (io), K25 PR25B (RDQ25) (io), K26 PR25A (RDQS25) (io), L18 PR30A (RDQ33) (io), L19 PR26B (RDQ25) (io), L20 PR26A (RDQ25) (io), L21 PR23B (RDQ25) (io), L22 PR23A (RDQ25) (io), L25 PR28B (RDQ25) (io), L26 PR28A (RDQ25) (io), M18 PR31B (RDQ33) (io), M19 PR30B (RDQ33) (io), M20 PR31A (RDQ33) (io), M21 PR27B (RDQ25) (io), M22 PR27A (RDQ25) (io), M23 PR29B (RDQ33) (io), M24 PR29A (RDQ33) (io), M25 PR32B (RDQ33) (io), M26 PR32A (RDQ33) (io), N19 PR35B (RDQ33) (io), N20 PR35A (RDQ33) (io), N21 PR34A (RDQ33) (io), N22 PR34B (RDQ33) (io), N23 PR33B (RDQ33) (io), N24 PR33A (RDQS33) (io), N25 PR36B, PCLKC2_0 (RDQ33) (io), N26 PR36A, PCLKT2_0 (RDQ33) (io)
part D pins: AA21 PR67B (RDQ67) (io), AA22 PR69A (RDQ67) (io), AA25 PR55B (RDQ59) (io), AA26 PR55A (RDQ59) (io), AB21 PR69B (RDQ67) (io), AB22 PR71B (io), AB23 PR62B (RDQ59) (io), AB24 PR62A (RDQ59) (io), AB25 PR58B (RDQ59) (io), AB26 PR58A (RDQ59) (io), AC22 PR71A (io), AC23 PR63B (RDQ67) (io), AC24 PR63A (RDQ67) (io), AC25 PR59B (RDQ59) (io), AC26 PR59A (RDQS59) (io), AD23 PR70B, VREF2_3 (RDQ67) (io), AD24 PR70A, VREF1_3 (RDQ67) (io), AD25 PR66B (RDQ67) (io), AD26 PR66A (RDQ67) (io), P19 PR39A (RDQ42) (io), P25 PR38B, PCLKC3_0 (RDQ42) (io), P26 PR38A, PCLKT3_0 (RDQ42) (io), R18 PR39B (RDQ42) (io), R19 PR43A (RDQ42) (io), R20 PR43B (RDQ42) (io), R21 PR40B (RDQ42) (io), R22 PR40A (RDQ42) (io), R23 PR42B (RDQ42) (io), R24 PR42A (RDQS42) (io), R25 PR41B (RDQ42) (io), R26 PR41A (RDQ42) (io), T18 PR47A (RDQ50) (io), T19 PR47B (RDQ50) (io), T20 PR51B (RDQ50) (io), T21 PR51A (RDQ50) (io), T22 PR44B (RDQ42) (io), T25 PR45B (RDQ42) (io), T26 PR45A (RDQ42) (io), U18 PR56A (RDQ59) (io), U19 PR56B (RDQ59) (io), U20 PR60B (RDQ59) (io), U21 PR60A (RDQ59) (io), U22 PR44A (RDQ42) (io), U23 PR48B (RDQ50) (io), U24 PR48A (RDQ50) (io), U25 PR46B (RDQ50) (io), U26 PR46A (RDQ50) (io), V19 PR68A (RDQ67) (io), V22 PR64A (RDQ67) (io), V23 PR52B (RDQ50) (io), V24 PR52A (RDQ50) (io), V25 PR49B (RDQ50) (io), V26 PR49A (RDQ50) (io), W20 PR68B (RDQ67) (io), W21 PR64B (RDQ67) (io), W22 PR65A (RDQ67) (io), W23 PR57B (RDQ59) (io), W24 PR57A (RDQ59) (io), W25 PR50B (RDQ50) (io), W26 PR50A (RDQS50) (io), Y21 PR65B (RDQ67) (io), Y22 PR67A (RDQS67) (io), Y23 PR61B (RDQ59) (io), Y24 PR61A (RDQ59) (io), Y25 PR53B (RDQ50) (io), Y26 PR53A (RDQ50) (io)
part E pins: AA14 PB39A (BDQ42) (io), AA15 PB44B (BDQ42) (io), AA16 PB47A (BDQ51) (io), AA17 PB59A (BDQ60) (io), AA19 PB68A (BDQ69) (io), AA20 PB71B, LRC_GPLLC_FB_A (BDQ69) (io), AB14 PB39B (BDQ42) (io), AB15 PB44A (BDQ42) (io), AB16 PB47B (BDQ51) (io), AB17 PB59B (BDQ60) (io), AB18 PB63A (BDQ60) (io), AB19 PB63B (BDQ60) (io), AB20 PB71A, LRC_GPLLT_FB_A (BDQ69) (io), AC15 PB43A (BDQ42) (io), AC17 PB51A (BDQS51) (io), AC18 PB55A (BDQ51) (io), AC19 PB67A (BDQ69) (io), AC20 PB70B, LRC_GPLLC_IN_A (BDQ69) (io), AD15 PB43B (BDQ42) (io), AD17 PB51B (BDQ51) (io), AD18 PB55B (BDQ51) (io), AD19 PB67B (BDQ69) (io), AD20 PB70A, LRC_GPLLT_IN_A (BDQ69) (io), AD22 PB69B (BDQ69) (io), AE10 PB38A, PCLKT4_0 (BDQ42) (io), AE11 PB41A (BDQ42) (io), AE12 PB42A (BDQS42) (io), AE13 PB45A (BDQ42) (io), AE14 PB46A (BDQ42) (io), AE15 PB49A (BDQ51) (io), AE16 PB50A (BDQ51) (io), AE17 PB53A (BDQ51) (io), AE18 PB54A (BDQ51) (io), AE19 PB57A (BDQ60) (io), AE20 PB58A (BDQ60) (io), AE21 PB61B (BDQ60) (io), AE22 PB62B (BDQ60) (io), AE23 PB69A (BDQS69) (io), AE24 PB66B (BDQ69) (io), AE25 PB66A (BDQ69) (io), AF10 PB38B, PCLKC4_0 (BDQ42) (io), AF11 PB41B (BDQ42) (io), AF12 PB42B (BDQ42) (io), AF13 PB45B (BDQ42) (io), AF14 PB46B (BDQ42) (io), AF15 PB49B (BDQ51) (io), AF16 PB50B (BDQ51) (io), AF17 PB53B (BDQ51) (io), AF18 PB54B (BDQ51) (io), AF19 PB57B (BDQ60) (io), AF20 PB58B (BDQ60) (io), AF21 PB61A (BDQ60) (io), AF22 PB62A (BDQ60) (io), AF23 PB65A (BDQ69) (io), AF24 PB65B (BDQ69) (io), V15 PB40A (BDQ42) (io), V16 PB52A (BDQ51) (io), V17 PB60A (BDQS60) (io), V18 PB64A (BDQ60) (io), W15 PB40B (BDQ42) (io), W16 PB52B (BDQ51) (io), W17 PB60B (BDQ60) (io), W18 PB64B (BDQ60) (io), W19 PB72A, VREF1_4 (BDQ69) (io), Y14 PB48A (BDQ51) (io), Y15 PB48B (BDQ51) (io), Y16 PB56A (BDQ60) (io), Y17 PB56B (BDQ60) (io), Y19 PB68B (BDQ69) (io), Y20 PB72B, VREF2_4 (BDQ69) (io)
part F pins: AA7 PB5A, LLC_GPLLT_FB_A (BDQ6) (io), AA8 PB3A, VREF1_5 (BDQ6) (io), AA10 PB15B (BDQ15) (io), AA11 PB20B (BDQ24) (io), AA12 PB23A (BDQ24) (io), AA13 PB36B (BDQ33) (io), AB3 PB4A, LLC_GPLLT_IN_A (BDQ6) (io), AB4 PB4B, LLC_GPLLC_IN_A (BDQ6) (io), AB5 PB9A (BDQ6) (io), AB6 PB7B (BDQ6) (io), AB7 PB7A (BDQ6) (io), AB8 PB11A (BDQ15) (io), AB9 PB18A (BDQ15) (io), AB10 PB18B (BDQ15) (io), AB11 PB19A (BDQ15) (io), AB12 PB23B (BDQ24) (io), AB13 PB36A (BDQ33) (io), AC3 PB6A (BDQS6) (io), AC4 PB6B (BDQ6) (io), AC5 PB9B (BDQ6) (io), AC7 PB11B (BDQ15) (io), AC8 PB22A (BDQ24) (io), AC9 PB22B (BDQ24) (io), AC10 PB19B (BDQ15) (io), AC12 PB27A (BDQ24) (io), AC13 PB31A (BDQ33) (io), AC14 PB35A (BDQ33) (io), AD1 PB10A (BDQ6) (io), AD2 PB10B (BDQ6) (io), AD3 PB14A (BDQ15) (io), AD4 PB13A (BDQ15) (io), AD5 PB13B (BDQ15) (io), AD7 PB29B (BDQ33) (io), AD8 PB29A (BDQ33) (io), AD9 PB33B (BDQ33) (io), AD10 PB33A (BDQS33) (io), AD12 PB27B (BDQ24) (io), AD13 PB31B (BDQ33) (io), AD14 PB35B (BDQ33) (io), AE2 PB14B (BDQ15) (io), AE3 PB17A (BDQ15) (io), AE4 PB21A (BDQ24) (io), AE5 PB21B (BDQ24) (io), AE6 PB26A (BDQ24) (io), AE7 PB30A (BDQ33) (io), AE8 PB34A (BDQ33) (io), AE9 PB37A, PCLKT5_0 (BDQ33) (io), AF3 PB17B (BDQ15) (io), AF4 PB25A (BDQ24) (io), AF5 PB25B (BDQ24) (io), AF6 PB26B (BDQ24) (io), AF7 PB30B (BDQ33) (io), AF8 PB34B (BDQ33) (io), AF9 PB37B, PCLKC5_0 (BDQ33) (io), V10 PB8A (BDQ6) (io), V11 PB12A (BDQ15) (io), V12 PB16A (BDQ15) (io), V13 PB24A (BDQS24) (io), V14 PB32A (BDQ33) (io), W9 PB5B, LLC_GPLLC_FB_A (BDQ6) (io), W10 PB8B (BDQ6) (io), W11 PB12B (BDQ15) (io), W12 PB16B (BDQ15) (io), W13 PB24B (BDQ24) (io), W14 PB32B (BDQ33) (io), Y8 PB3B, VREF2_5 (BDQ6) (io), Y10 PB15A (BDQS15) (io), Y11 PB20A (BDQ24) (io), Y12 PB28A (BDQ24) (io), Y13 PB28B (BDQ24) (io)
part G pins: AA1 PL67A (LDQS67) (io), AA2 PL67B (LDQ67) (io), AA5 PL64A (LDQ67) (io), AA6 PL69A (LDQ67) (io), AB1 PL70A, VREF1_6 (LDQ67) (io), AB2 PL70B, VREF2_6 (LDQ67) (io), AC1 PL68A (LDQ67) (io), AC2 PL68B (LDQ67) (io), N1 PL38B, PCLKC6_0 (LDQ42) (io), N2 PL38A, PCLKT6_0 (LDQ42) (io), N3 PL41A (LDQ42) (io), P1 PL42B (LDQ42) (io), P2 PL42A (LDQS42) (io), P3 PL41B (LDQ42) (io), P4 PL44A (LDQ42) (io), P5 PL40A (LDQ42) (io), P6 PL40B (LDQ42) (io), P7 PL39B (LDQ42) (io), P8 PL39A (LDQ42) (io), R1 PL46B (LDQ50) (io), R2 PL46A (LDQ50) (io), R3 PL45B (LDQ42) (io), R4 PL45A (LDQ42) (io), R5 PL44B (LDQ42) (io), R6 PL43A (LDQ42) (io), R7 PL43B (LDQ42) (io), R8 PL47B (LDQ50) (io), R9 PL47A (LDQ50) (io), T1 PL49B (LDQ50) (io), T2 PL49A (LDQ50) (io), T5 PL48A (LDQ50) (io), T6 PL48B (LDQ50) (io), T7 PL60B (LDQ59) (io), T8 PL51B (LDQ50) (io), T9 PL51A (LDQ50) (io), U1 PL53B (LDQ50) (io), U2 PL53A (LDQ50) (io), U3 PL50B (LDQ50) (io), U4 PL50A (LDQS50) (io), U5 PL52A (LDQ50) (io), U6 PL52B (LDQ50) (io), U7 PL60A (LDQ59) (io), U8 PL56B (LDQ59) (io), U9 PL56A (LDQ59) (io), V1 PL58B (LDQ59) (io), V2 PL58A (LDQ59) (io), V3 PL55B (LDQ59) (io), V4 PL55A (LDQ59) (io), V5 PL57B (LDQ59) (io), V8 PL61A (LDQ59) (io), V9 PL61B (LDQ59) (io), W1 PL62B (LDQ59) (io), W2 PL62A (LDQ59) (io), W3 PL59B (LDQ59) (io), W4 PL59A (LDQS59) (io), W5 PL57A (LDQ59) (io), W6 PL65A (LDQ67) (io), W7 PL65B (LDQ67) (io), W8 PL71A (io), Y1 PL66B (LDQ67) (io), Y2 PL66A (LDQ67) (io), Y3 PL63B (LDQ67) (io), Y4 PL63A (LDQ67) (io), Y5 PL64B (LDQ67) (io), Y6 PL69B (LDQ67) (io), Y7 PL71B (io)
part H pins: B2 PL4B (LDQ8) (io), C1 PL8A (LDQS8) (io), C2 PL7A (LDQ8) (io), C3 PL4A (LDQ8) (io), D1 PL15A (LDQ16) (io), D2 PL8B (LDQ8) (io), D3 PL7B (LDQ8) (io), D4 PL10A (LDQ8) (io), E1 PL15B (LDQ16) (io), E2 PL12B (LDQ16) (io), E3 PL12A (LDQ16) (io), E4 PL10B (LDQ8) (io), E5 PL11A (LDQ8) (io), E6 PL5A, VREF1_7 (LDQ8) (io), F1 PL16B (LDQ16) (io), F2 PL16A (LDQS16) (io), F5 PL11B (LDQ8) (io), F6 PL5B, VREF2_7 (LDQ8) (io), G1 PL25B (LDQ25) (io), G2 PL25A (LDQS25) (io), G3 PL19B (LDQ16) (io), G4 PL19A (LDQ16) (io), G5 PL6A (LDQ8) (io), G6 PL6B (LDQ8) (io), H1 PL29B (LDQ33) (io), H2 PL29A (LDQ33) (io), H3 PL24A (LDQ25) (io), H4 PL14A (LDQ16) (io), H5 PL13B (LDQ16) (io), H6 PL13A (LDQ16) (io), H7 PL9A (LDQ8) (io), J1 PL32B, CSSPIN (LDQ33) (io), J2 PL32A, CSSPISN (LDQ33) (io), J3 PL24B (LDQ25) (io), J4 PL21B (LDQ25) (io), J5 PL14B (LDQ16) (io), J8 PL9B (LDQ8) (io), K1 PL33B (LDQ33) (io), K2 PL33A (LDQS33) (io), K3 PL28B (LDQ25) (io), K4 PL28A (LDQ25) (io), K5 PL21A (LDQ25) (io), K6 PL17B (LDQ16) (io), K7 PL17A (LDQ16) (io), K8 PL18A (LDQ16) (io), L1 PL35B, INITN (LDQ33) (io), L2 PL35A, SISPI (LDQ33) (io), L5 PL23A (LDQ25) (io), L6 PL23B (LDQ25) (io), L7 PL22A (LDQ25) (io), L8 PL22B (LDQ25) (io), L9 PL18B (LDQ16) (io), M1 PL36B, PCLKC7_0 (LDQ33) (io), M2 PL36A, PCLKT7_0 (LDQ33) (io), M4 PL31A, CFG1 (LDQ33) (io), M5 PL31B (LDQ33) (io), M6 PL27A (LDQ25) (io), M7 PL27B (LDQ25) (io), M8 PL26A (LDQ25) (io), M9 PL26B (LDQ25) (io), N5 PL34B, SOSPI (LDQ33) (io), N6 PL34A, CCLK (LDQ33) (io), N7 PL30B, DONE (LDQ33) (io), N8 PL30A, PROGRAMN (LDQ33) (io)
part I pins: M3 CFG0, N4 TOE, P21 TCK (in), P22 TDO (out), P23 TDI (in), P24 TMS (in)
part J pins: AA4 VCCIO6 (power), AA23 VCCIO3 (power), AC6 VCCIO5 (power), AC11 VCCIO5 (power), AC16 VCCIO4 (power), AC21 VCCIO4 (power), D6 VCCIO0 (power), D11 VCCIO0 (power), D16 VCCIO1 (power), D21 VCCIO1 (power), F4 VCCIO7 (power), F23 VCCIO2 (power), G9 VCCIO0 (power), G18 VCCIO1 (power), J7 VCCIO7 (power), J20 VCCIO2 (power), K10 VCCAUX (power), K12 VCCIO0 (power), K15 VCCIO1 (power), K17 VCCAUX (power), L4 VCCIO7 (power), L10 VCCAUX (power), L12 VCC (power), L13 VCC (power), L14 VCC (power), L15 VCC (power), L17 VCCAUX (power), L23 VCCIO2 (power), M10 VCCIO7 (power), M11 VCC (power), M12 VCC (power), M15 VCC (power), M16 VCC (power), M17 VCCIO2 (power), N11 VCC (power), N16 VCC (power), P11 VCC (power), P16 VCC (power), P20 VCCJ (power), R10 VCCIO6 (power), R11 VCC (power), R12 VCC (power), R15 VCC (power), R16 VCC (power), R17 VCCIO3 (power), T4 VCCIO6 (power), T10 VCCAUX (power), T12 VCC (power), T13 VCC (power), T14 VCC (power), T15 VCC (power), T17 VCCAUX (power), T23 VCCIO3 (power), U10 VCCAUX (power), U12 VCCIO5 (power), U15 VCCIO4 (power), U17 VCCAUX (power), V7 VCCIO6 (power), V20 VCCIO3 (power), Y9 VCCIO5 (power), Y18 VCCIO4 (power)
part K pins: A2 GND (power), A25 GND (power), AA3 GND (power), AA9 GND (power), AA18 GND (power), AA24 GND (power), AD6 GND (power), AD11 GND (power), AD16 GND (power), AD21 GND (power), AE1 GND (power), AE26 GND (power), AF2 GND (power), AF25 GND (power), B1 GND (power), B26 GND (power), C6 GND (power), C11 GND (power), C16 GND (power), C21 GND (power), F3 GND (power), F9 GND (power), F18 GND (power), F24 GND (power), J6 GND (power), J21 GND (power), K11 GND (power), K13 GND (power), K14 GND (power), K16 GND (power), L3 GND (power), L11 GND (power), L16 GND (power), L24 GND (power), M13 GND (power), M14 GND (power), N9 GND (power), N10 GND (power), N12 GND (power), N13 GND (power), N14 GND (power), N15 GND (power), N17 GND (power), N18 GND (power), P9 GND (power), P10 GND (power), P12 GND (power), P13 GND (power), P14 GND (power), P15 GND (power), P17 GND (power), P18 GND (power), R13 GND (power), R14 GND (power), T3 GND (power), T11 GND (power), T16 GND (power), T24 GND (power), U11 GND (power), U13 GND (power), U14 GND (power), U16 GND (power), V6 GND (power), V21 GND (power)
part L pins: D5 NC
part A text: BANK 0
part B text: BANK 1
part C text: BANK 2
part D text: BANK 3
part E text: BANK 4
part F text: BANK 5
part G text: BANK 6
part H text: BANK 7

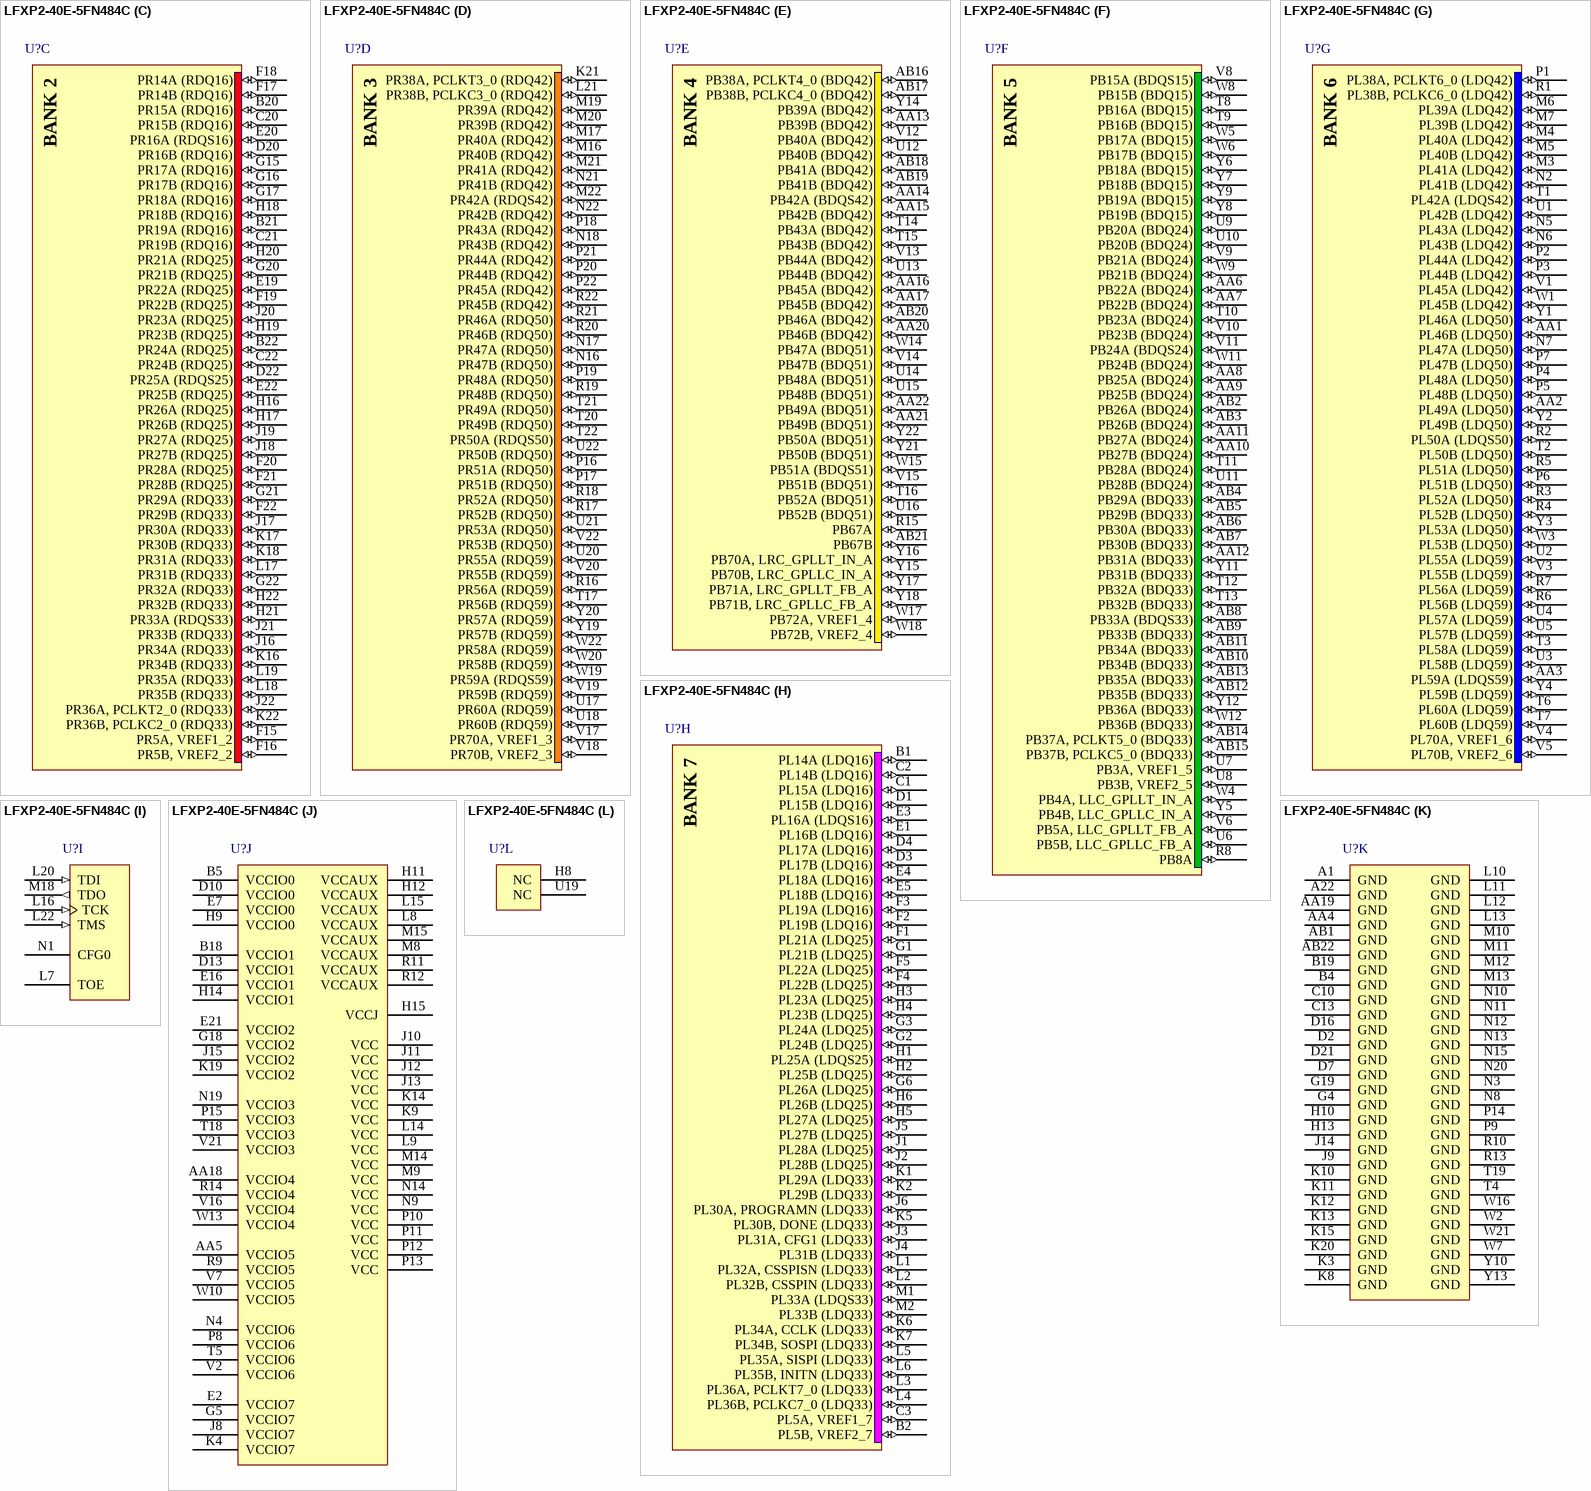
[diagram p145: symbol LFXP2-40E-5FN484C]

## LFXP2-40E-5FN484C
designator U?
XP2, 1.2V FPGA, 363 I/Os, 40K LUTs, 484-Pin fpBGA, Speed Grade 5, Commercial Grade, Pb-Free; DatasheetVersion: ver01.8, Jun-2008; PackageVersion: ver02.8, Jul-2011; PackageReference: fpBGA484; PackageDescription: 484-Ball Fine Pitch Ball Grid Array (fpBGA484); Code_IPC: BGA100P22X22-484; ComponentLink1Description: Manufacturer URL; ComponentLink1URL: http://www.latticesemi.com/; ComponentLink2Description: Datasheet; ComponentLink2URL: http://www.latticesemi.com/documents/DS1009.pdf; ComponentLink3Description: Package Specification; ComponentLink3URL: http://www.latticesemi.com/lit/docs/package/pkg.pdf
footprint fpBGA484 (BGA, 484-Leads, Body 23x23mm, Pitch 1mm)
part A pins: A2 PT4A, ULC_GPLLT_IN_A (io), A3 PT18A (TDQ15) (io), A4 PT18B (TDQ15) (io), A5 PT21A (TDQ24) (io), A6 PT21B (TDQ24) (io), A7 PT25A (TDQ24) (io), A8 PT26A (TDQ24) (io), A9 PT26B (TDQ24) (io), A10 PT30A (TDQ33) (io), A11 PT30B (TDQ33) (io), A12 PT33B (TDQ33) (io), A13 PT34B (TDQ33) (io), A14 PT37B, PCLKC0_0 (TDQ33) (io), B3 PT4B, ULC_GPLLC_IN_A (io), B6 PT22A (TDQ24) (io), B7 PT22B (TDQ24) (io), B8 PT25B (TDQ24) (io), B9 PT29A (TDQ33) (io), B10 PT29B (TDQ33) (io), B11 PT33A (TDQS33) (io), B12 PT34A (TDQ33) (io), B13 PT37A, PCLKT0_0 (TDQ33) (io), C4 PT17B (TDQ15) (io), C5 PT17A (TDQ15) (io), C6 PT19A (TDQ15) (io), C7 PT19B (TDQ15) (io), C8 PT23B (TDQ24) (io), C9 PT27B (TDQ24) (io), C11 PT31B (TDQ33) (io), C12 PT35B (TDQ33) (io), D5 PT15B (TDQ15) (io), D6 PT15A (TDQS15) (io), D8 PT23A (TDQ24) (io), D9 PT27A (TDQ24) (io), D11 PT31A (TDQ33) (io), E6 PT3B, VREF2_0 (io), E8 PT16B (TDQ15) (io), E9 PT24A (TDQS24) (io), E10 PT28B (TDQ24) (io), E11 PT35A (TDQ33) (io), F6 PT3A, VREF1_0 (io), F7 PT5A, ULC_GPLLT_FB_A (io), F8 PT16A (TDQ15) (io), F9 PT24B (TDQ24) (io), F10 PT28A (TDQ24) (io), F11 PT36A (TDQ33) (io), F12 PT36B (TDQ33) (io), G7 PT5B, ULC_GPLLC_FB_A (io), G8 PT32A (TDQ33) (io), G9 PT32B (TDQ33) (io), H7 PT20A (TDQ24) (io), J7 PT20B (TDQ24) (io)
part B pins: A15 PT38B, PCLKC1_0 (TDQ42) (io), A16 PT41B (TDQ42) (io), A17 PT42B (TDQ42) (io), A18 PT45B (TDQ42) (io), A19 PT51B (TDQ51) (io), A20 PT70A, URC_GPLLT_IN_A (io), A21 PT51A (TDQS51) (io), B14 PT38A, PCLKT1_0 (TDQ42) (io), B15 PT41A (TDQ42) (io), B16 PT42A (TDQS42) (io), B17 PT45A (TDQ42) (io), C14 PT43B (TDQ42) (io), C15 PT50A (TDQ51) (io), C16 PT46A (TDQ42) (io), C17 PT46B (TDQ42) (io), C18 PT71A, URC_GPLLT_FB_A (io), C19 PT71B, URC_GPLLC_FB_A (io), D12 PT39B (TDQ42) (io), D14 PT47B (TDQ51) (io), D15 PT50B (TDQ51) (io), D17 PT52A (TDQ51) (io), D18 PT52B (TDQ51) (io), D19 PT70B, URC_GPLLC_IN_A (io), E12 PT39A (TDQ42) (io), E13 PT43A (TDQ42) (io), E14 PT49A (TDQ51) (io), E15 PT49B (TDQ51) (io), E17 PT72A, VREF1_1 (io), E18 PT72B, VREF2_1 (io), F13 PT44A (TDQ42) (io), F14 PT47A (TDQ51) (io), G10 PT40A (TDQ42) (io), G11 PT40B (TDQ42) (io), G12 PT44B (TDQ42) (io), G13 PT48A (TDQ51) (io), G14 PT48B (TDQ51) (io)
part C pins: B20 PR15A (RDQ16) (io), B21 PR19A (RDQ16) (io), B22 PR24A (RDQ25) (io), C20 PR15B (RDQ16) (io), C21 PR19B (RDQ16) (io), C22 PR24B (RDQ25) (io), D20 PR16B (RDQ16) (io), D22 PR25A (RDQS25) (io), E19 PR22A (RDQ25) (io), E20 PR16A (RDQS16) (io), E22 PR25B (RDQ25) (io), F15 PR5A, VREF1_2 (io), F16 PR5B, VREF2_2 (io), F17 PR14B (RDQ16) (io), F18 PR14A (RDQ16) (io), F19 PR22B (RDQ25) (io), F20 PR28A (RDQ25) (io), F21 PR28B (RDQ25) (io), F22 PR29B (RDQ33) (io), G15 PR17A (RDQ16) (io), G16 PR17B (RDQ16) (io), G17 PR18A (RDQ16) (io), G20 PR21B (RDQ25) (io), G21 PR29A (RDQ33) (io), G22 PR32A (RDQ33) (io), H16 PR26A (RDQ25) (io), H17 PR26B (RDQ25) (io), H18 PR18B (RDQ16) (io), H19 PR23B (RDQ25) (io), H20 PR21A (RDQ25) (io), H21 PR33A (RDQS33) (io), H22 PR32B (RDQ33) (io), J16 PR34A (RDQ33) (io), J17 PR30A (RDQ33) (io), J18 PR27B (RDQ25) (io), J19 PR27A (RDQ25) (io), J20 PR23A (RDQ25) (io), J21 PR33B (RDQ33) (io), J22 PR36A, PCLKT2_0 (RDQ33) (io), K16 PR34B (RDQ33) (io), K17 PR30B (RDQ33) (io), K18 PR31A (RDQ33) (io), K22 PR36B, PCLKC2_0 (RDQ33) (io), L17 PR31B (RDQ33) (io), L18 PR35B (RDQ33) (io), L19 PR35A (RDQ33) (io)
part D pins: K21 PR38A, PCLKT3_0 (RDQ42) (io), L21 PR38B, PCLKC3_0 (RDQ42) (io), M16 PR40B (RDQ42) (io), M17 PR40A (RDQ42) (io), M19 PR39A (RDQ42) (io), M20 PR39B (RDQ42) (io), M21 PR41A (RDQ42) (io), M22 PR42A (RDQS42) (io), N16 PR47B (RDQ50) (io), N17 PR47A (RDQ50) (io), N18 PR43B (RDQ42) (io), N21 PR41B (RDQ42) (io), N22 PR42B (RDQ42) (io), P16 PR51A (RDQ50) (io), P17 PR51B (RDQ50) (io), P18 PR43A (RDQ42) (io), P19 PR48A (RDQ50) (io), P20 PR44B (RDQ42) (io), P21 PR44A (RDQ42) (io), P22 PR45A (RDQ42) (io), R16 PR56A (RDQ59) (io), R17 PR52B (RDQ50) (io), R18 PR52A (RDQ50) (io), R19 PR48B (RDQ50) (io), R20 PR46B (RDQ50) (io), R21 PR46A (RDQ50) (io), R22 PR45B (RDQ42) (io), T17 PR56B (RDQ59) (io), T20 PR49B (RDQ50) (io), T21 PR49A (RDQ50) (io), T22 PR50A (RDQS50) (io), U17 PR60A (RDQ59) (io), U18 PR60B (RDQ59) (io), U20 PR55A (RDQ59) (io), U21 PR53A (RDQ50) (io), U22 PR50B (RDQ50) (io), V17 PR70A, VREF1_3 (io), V18 PR70B, VREF2_3 (io), V19 PR59B (RDQ59) (io), V20 PR55B (RDQ59) (io), V22 PR53B (RDQ50) (io), W19 PR59A (RDQS59) (io), W20 PR58B (RDQ59) (io), W22 PR58A (RDQ59) (io), Y19 PR57B (RDQ59) (io), Y20 PR57A (RDQ59) (io)
part E pins: AA13 PB39B (BDQ42) (io), AA14 PB42A (BDQS42) (io), AA15 PB42B (BDQ42) (io), AA16 PB45A (BDQ42) (io), AA17 PB45B (BDQ42) (io), AA20 PB46B (BDQ42) (io), AA21 PB49B (BDQ51) (io), AA22 PB49A (BDQ51) (io), AB16 PB38A, PCLKT4_0 (BDQ42) (io), AB17 PB38B, PCLKC4_0 (BDQ42) (io), AB18 PB41A (BDQ42) (io), AB19 PB41B (BDQ42) (io), AB20 PB46A (BDQ42) (io), AB21 PB67B (io), R15 PB67A (io), T14 PB43A (BDQ42) (io), T15 PB43B (BDQ42) (io), T16 PB52A (BDQ51) (io), U12 PB40B (BDQ42) (io), U13 PB44B (BDQ42) (io), U14 PB48A (BDQ51) (io), U15 PB48B (BDQ51) (io), U16 PB52B (BDQ51) (io), V12 PB40A (BDQ42) (io), V13 PB44A (BDQ42) (io), V14 PB47B (BDQ51) (io), V15 PB51B (BDQ51) (io), W14 PB47A (BDQ51) (io), W15 PB51A (BDQS51) (io), W17 PB72A, VREF1_4 (io), W18 PB72B, VREF2_4 (io), Y14 PB39A (BDQ42) (io), Y15 PB70B, LRC_GPLLC_IN_A (io), Y16 PB70A, LRC_GPLLT_IN_A (io), Y17 PB71A, LRC_GPLLT_FB_A (io), Y18 PB71B, LRC_GPLLC_FB_A (io), Y21 PB50B (BDQ51) (io), Y22 PB50A (BDQ51) (io)
part F pins: AA6 PB22A (BDQ24) (io), AA7 PB22B (BDQ24) (io), AA8 PB25A (BDQ24) (io), AA9 PB25B (BDQ24) (io), AA10 PB27B (BDQ24) (io), AA11 PB27A (BDQ24) (io), AA12 PB31A (BDQ33) (io), AB2 PB26A (BDQ24) (io), AB3 PB26B (BDQ24) (io), AB4 PB29A (BDQ33) (io), AB5 PB29B (BDQ33) (io), AB6 PB30A (BDQ33) (io), AB7 PB30B (BDQ33) (io), AB8 PB33A (BDQS33) (io), AB9 PB33B (BDQ33) (io), AB10 PB34B (BDQ33) (io), AB11 PB34A (BDQ33) (io), AB12 PB35B (BDQ33) (io), AB13 PB35A (BDQ33) (io), AB14 PB37A, PCLKT5_0 (BDQ33) (io), AB15 PB37B, PCLKC5_0 (BDQ33) (io), R8 PB8A (io), T8 PB16A (BDQ15) (io), T9 PB16B (BDQ15) (io), T10 PB23A (BDQ24) (io), T11 PB28A (BDQ24) (io), T12 PB32A (BDQ33) (io), T13 PB32B (BDQ33) (io), U6 PB5B, LLC_GPLLC_FB_A (io), U7 PB3A, VREF1_5 (io), U8 PB3B, VREF2_5 (io), U9 PB20A (BDQ24) (io), U10 PB20B (BDQ24) (io), U11 PB28B (BDQ24) (io), V6 PB5A, LLC_GPLLT_FB_A (io), V8 PB15A (BDQS15) (io), V9 PB21A (BDQ24) (io), V10 PB23B (BDQ24) (io), V11 PB24A (BDQS24) (io), W4 PB4A, LLC_GPLLT_IN_A (io), W5 PB17A (BDQ15) (io), W6 PB17B (BDQ15) (io), W8 PB15B (BDQ15) (io), W9 PB21B (BDQ24) (io), W11 PB24B (BDQ24) (io), W12 PB36B (BDQ33) (io), Y5 PB4B, LLC_GPLLC_IN_A (io), Y6 PB18A (BDQ15) (io), Y7 PB18B (BDQ15) (io), Y8 PB19B (BDQ15) (io), Y9 PB19A (BDQ15) (io), Y11 PB31B (BDQ33) (io), Y12 PB36A (BDQ33) (io)
part G pins: AA1 PL46B (LDQ50) (io), AA2 PL49A (LDQ50) (io), AA3 PL59A (LDQS59) (io), M3 PL41A (LDQ42) (io), M4 PL40A (LDQ42) (io), M5 PL40B (LDQ42) (io), M6 PL39A (LDQ42) (io), M7 PL39B (LDQ42) (io), N2 PL41B (LDQ42) (io), N5 PL43A (LDQ42) (io), N6 PL43B (LDQ42) (io), N7 PL47A (LDQ50) (io), P1 PL38A, PCLKT6_0 (LDQ42) (io), P2 PL44A (LDQ42) (io), P3 PL44B (LDQ42) (io), P4 PL48A (LDQ50) (io), P5 PL48B (LDQ50) (io), P6 PL51B (LDQ50) (io), P7 PL47B (LDQ50) (io), R1 PL38B, PCLKC6_0 (LDQ42) (io), R2 PL50A (LDQS50) (io), R3 PL52A (LDQ50) (io), R4 PL52B (LDQ50) (io), R5 PL51A (LDQ50) (io), R6 PL56B (LDQ59) (io), R7 PL56A (LDQ59) (io), T1 PL42A (LDQS42) (io), T2 PL50B (LDQ50) (io), T3 PL58A (LDQ59) (io), T6 PL60A (LDQ59) (io), T7 PL60B (LDQ59) (io), U1 PL42B (LDQ42) (io), U2 PL55A (LDQ59) (io), U3 PL58B (LDQ59) (io), U4 PL57A (LDQ59) (io), U5 PL57B (LDQ59) (io), V1 PL45A (LDQ42) (io), V3 PL55B (LDQ59) (io), V4 PL70A, VREF1_6 (io), V5 PL70B, VREF2_6 (io), W1 PL45B (LDQ42) (io), W3 PL53B (LDQ50) (io), Y1 PL46A (LDQ50) (io), Y2 PL49B (LDQ50) (io), Y3 PL53A (LDQ50) (io), Y4 PL59B (LDQ59) (io)
part H pins: B1 PL14A (LDQ16) (io), B2 PL5B, VREF2_7 (io), C1 PL15A (LDQ16) (io), C2 PL14B (LDQ16) (io), C3 PL5A, VREF1_7 (io), D1 PL15B (LDQ16) (io), D3 PL17B (LDQ16) (io), D4 PL17A (LDQ16) (io), E1 PL16B (LDQ16) (io), E3 PL16A (LDQS16) (io), E4 PL18A (LDQ16) (io), E5 PL18B (LDQ16) (io), F1 PL21A (LDQ25) (io), F2 PL19B (LDQ16) (io), F3 PL19A (LDQ16) (io), F4 PL22B (LDQ25) (io), F5 PL22A (LDQ25) (io), G1 PL21B (LDQ25) (io), G2 PL24B (LDQ25) (io), G3 PL24A (LDQ25) (io), G6 PL26A (LDQ25) (io), H1 PL25A (LDQS25) (io), H2 PL25B (LDQ25) (io), H3 PL23A (LDQ25) (io), H4 PL23B (LDQ25) (io), H5 PL27A (LDQ25) (io), H6 PL26B (LDQ25) (io), J1 PL28A (LDQ25) (io), J2 PL28B (LDQ25) (io), J3 PL31A, CFG1 (LDQ33) (io), J4 PL31B (LDQ33) (io), J5 PL27B (LDQ25) (io), J6 PL30A, PROGRAMN (LDQ33) (io), K1 PL29A (LDQ33) (io), K2 PL29B (LDQ33) (io), K5 PL30B, DONE (LDQ33) (io), K6 PL34A, CCLK (LDQ33) (io), K7 PL34B, SOSPI (LDQ33) (io), L1 PL32A, CSSPISN (LDQ33) (io), L2 PL32B, CSSPIN (LDQ33) (io), L3 PL36A, PCLKT7_0 (LDQ33) (io), L4 PL36B, PCLKC7_0 (LDQ33) (io), L5 PL35A, SISPI (LDQ33) (io), L6 PL35B, INITN (LDQ33) (io), M1 PL33A (LDQS33) (io), M2 PL33B (LDQ33) (io)
part I pins: L7 TOE, L16 TCK (in), L20 TDI (in), L22 TMS (in), M18 TDO (out), N1 CFG0
part J pins: AA5 VCCIO5 (power), AA18 VCCIO4 (power), B5 VCCIO0 (power), B18 VCCIO1 (power), D10 VCCIO0 (power), D13 VCCIO1 (power), E2 VCCIO7 (power), E7 VCCIO0 (power), E16 VCCIO1 (power), E21 VCCIO2 (power), G5 VCCIO7 (power), G18 VCCIO2 (power), H9 VCCIO0 (power), H11 VCCAUX (power), H12 VCCAUX (power), H14 VCCIO1 (power), H15 VCCJ (power), J8 VCCIO7 (power), J10 VCC (power), J11 VCC (power), J12 VCC (power), J13 VCC (power), J15 VCCIO2 (power), K4 VCCIO7 (power), K9 VCC (power), K14 VCC (power), K19 VCCIO2 (power), L8 VCCAUX (power), L9 VCC (power), L14 VCC (power), L15 VCCAUX (power), M8 VCCAUX (power), M9 VCC (power), M14 VCC (power), M15 VCCAUX (power), N4 VCCIO6 (power), N9 VCC (power), N14 VCC (power), N19 VCCIO3 (power), P8 VCCIO6 (power), P10 VCC (power), P11 VCC (power), P12 VCC (power), P13 VCC (power), P15 VCCIO3 (power), R9 VCCIO5 (power), R11 VCCAUX (power), R12 VCCAUX (power), R14 VCCIO4 (power), T5 VCCIO6 (power), T18 VCCIO3 (power), V2 VCCIO6 (power), V7 VCCIO5 (power), V16 VCCIO4 (power), V21 VCCIO3 (power), W10 VCCIO5 (power), W13 VCCIO4 (power)
part K pins: A1 GND (power), A22 GND (power), AA4 GND (power), AA19 GND (power), AB1 GND (power), AB22 GND (power), B4 GND (power), B19 GND (power), C10 GND (power), C13 GND (power), D2 GND (power), D7 GND (power), D16 GND (power), D21 GND (power), G4 GND (power), G19 GND (power), H10 GND (power), H13 GND (power), J9 GND (power), J14 GND (power), K3 GND (power), K8 GND (power), K10 GND (power), K11 GND (power), K12 GND (power), K13 GND (power), K15 GND (power), K20 GND (power), L10 GND (power), L11 GND (power), L12 GND (power), L13 GND (power), M10 GND (power), M11 GND (power), M12 GND (power), M13 GND (power), N3 GND (power), N8 GND (power), N10 GND (power), N11 GND (power), N12 GND (power), N13 GND (power), N15 GND (power), N20 GND (power), P9 GND (power), P14 GND (power), R10 GND (power), R13 GND (power), T4 GND (power), T19 GND (power), W2 GND (power), W7 GND (power), W16 GND (power), W21 GND (power), Y10 GND (power), Y13 GND (power)
part L pins: H8 NC, U19 NC
part A text: BANK 0
part B text: BANK 1
part C text: BANK 2
part D text: BANK 3
part E text: BANK 4
part F text: BANK 5
part G text: BANK 6
part H text: BANK 7

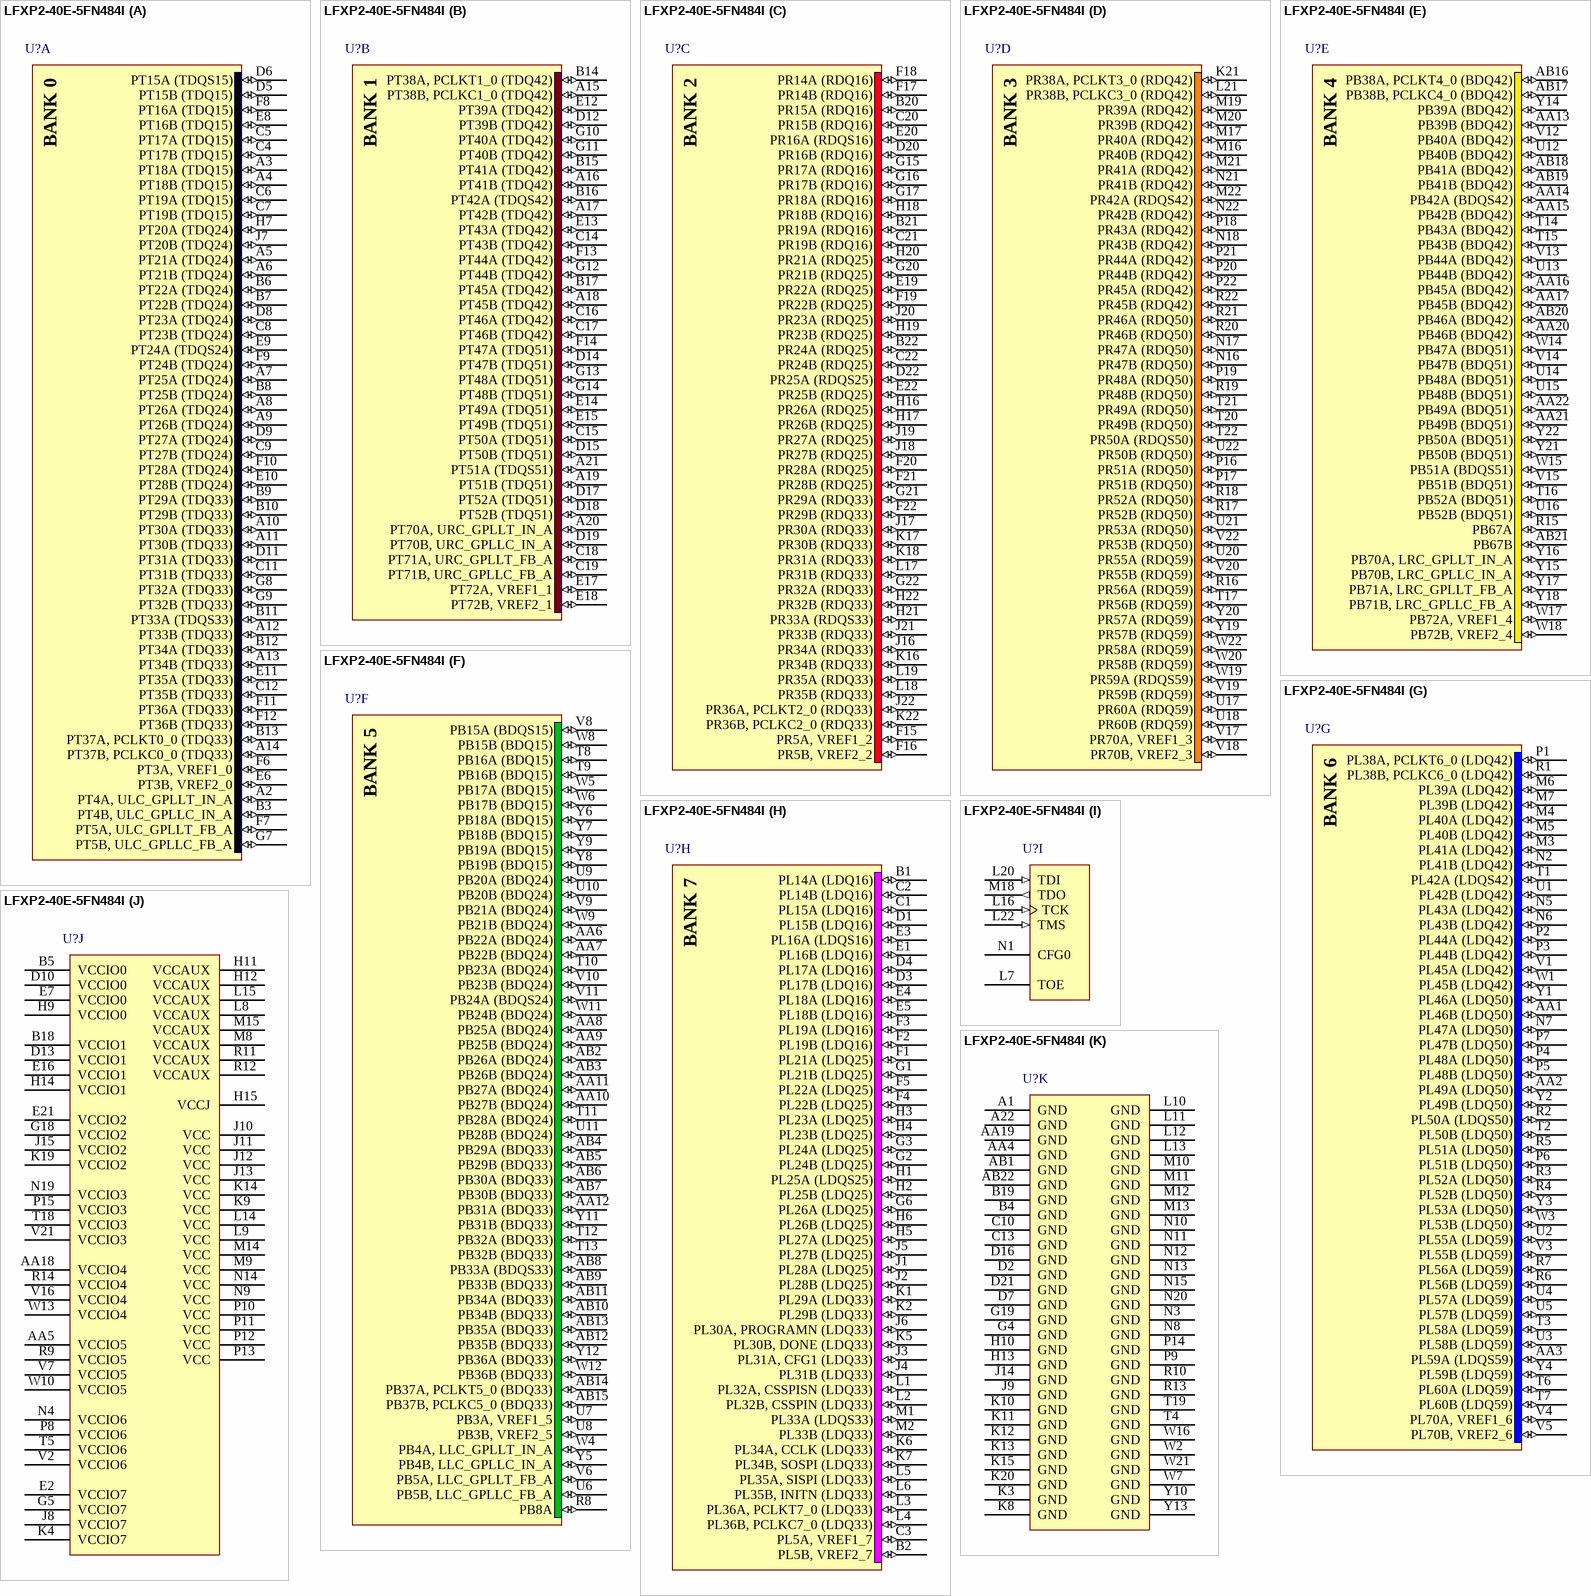
[diagram p146: symbol LFXP2-40E-5FN484I]

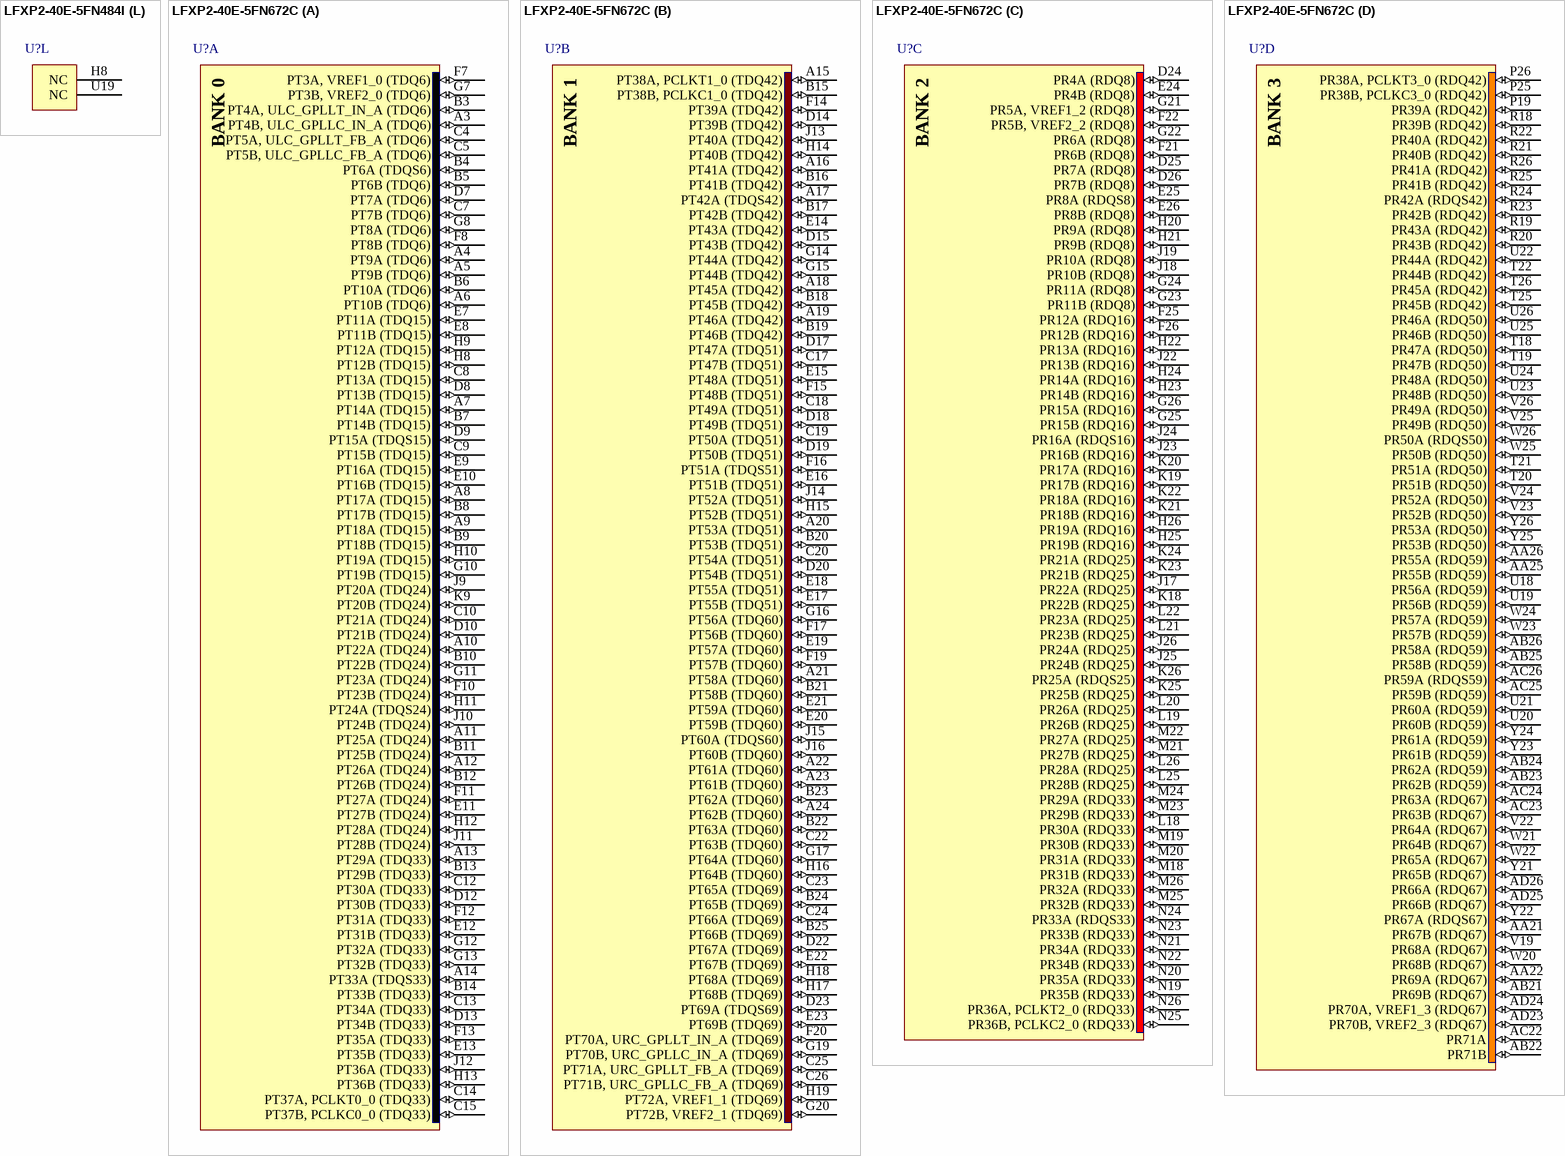
[diagram p147: symbols LFXP2-40E-5FN484I to LFXP2-40E-5FN672C]